# Altium integrated library Atmel Microcontroller 32-Bit AVR UC3.IntLib: 109 symbols (part 1 of 15)
Pins are listed as number, name and electrical type; pins without a type are passive.

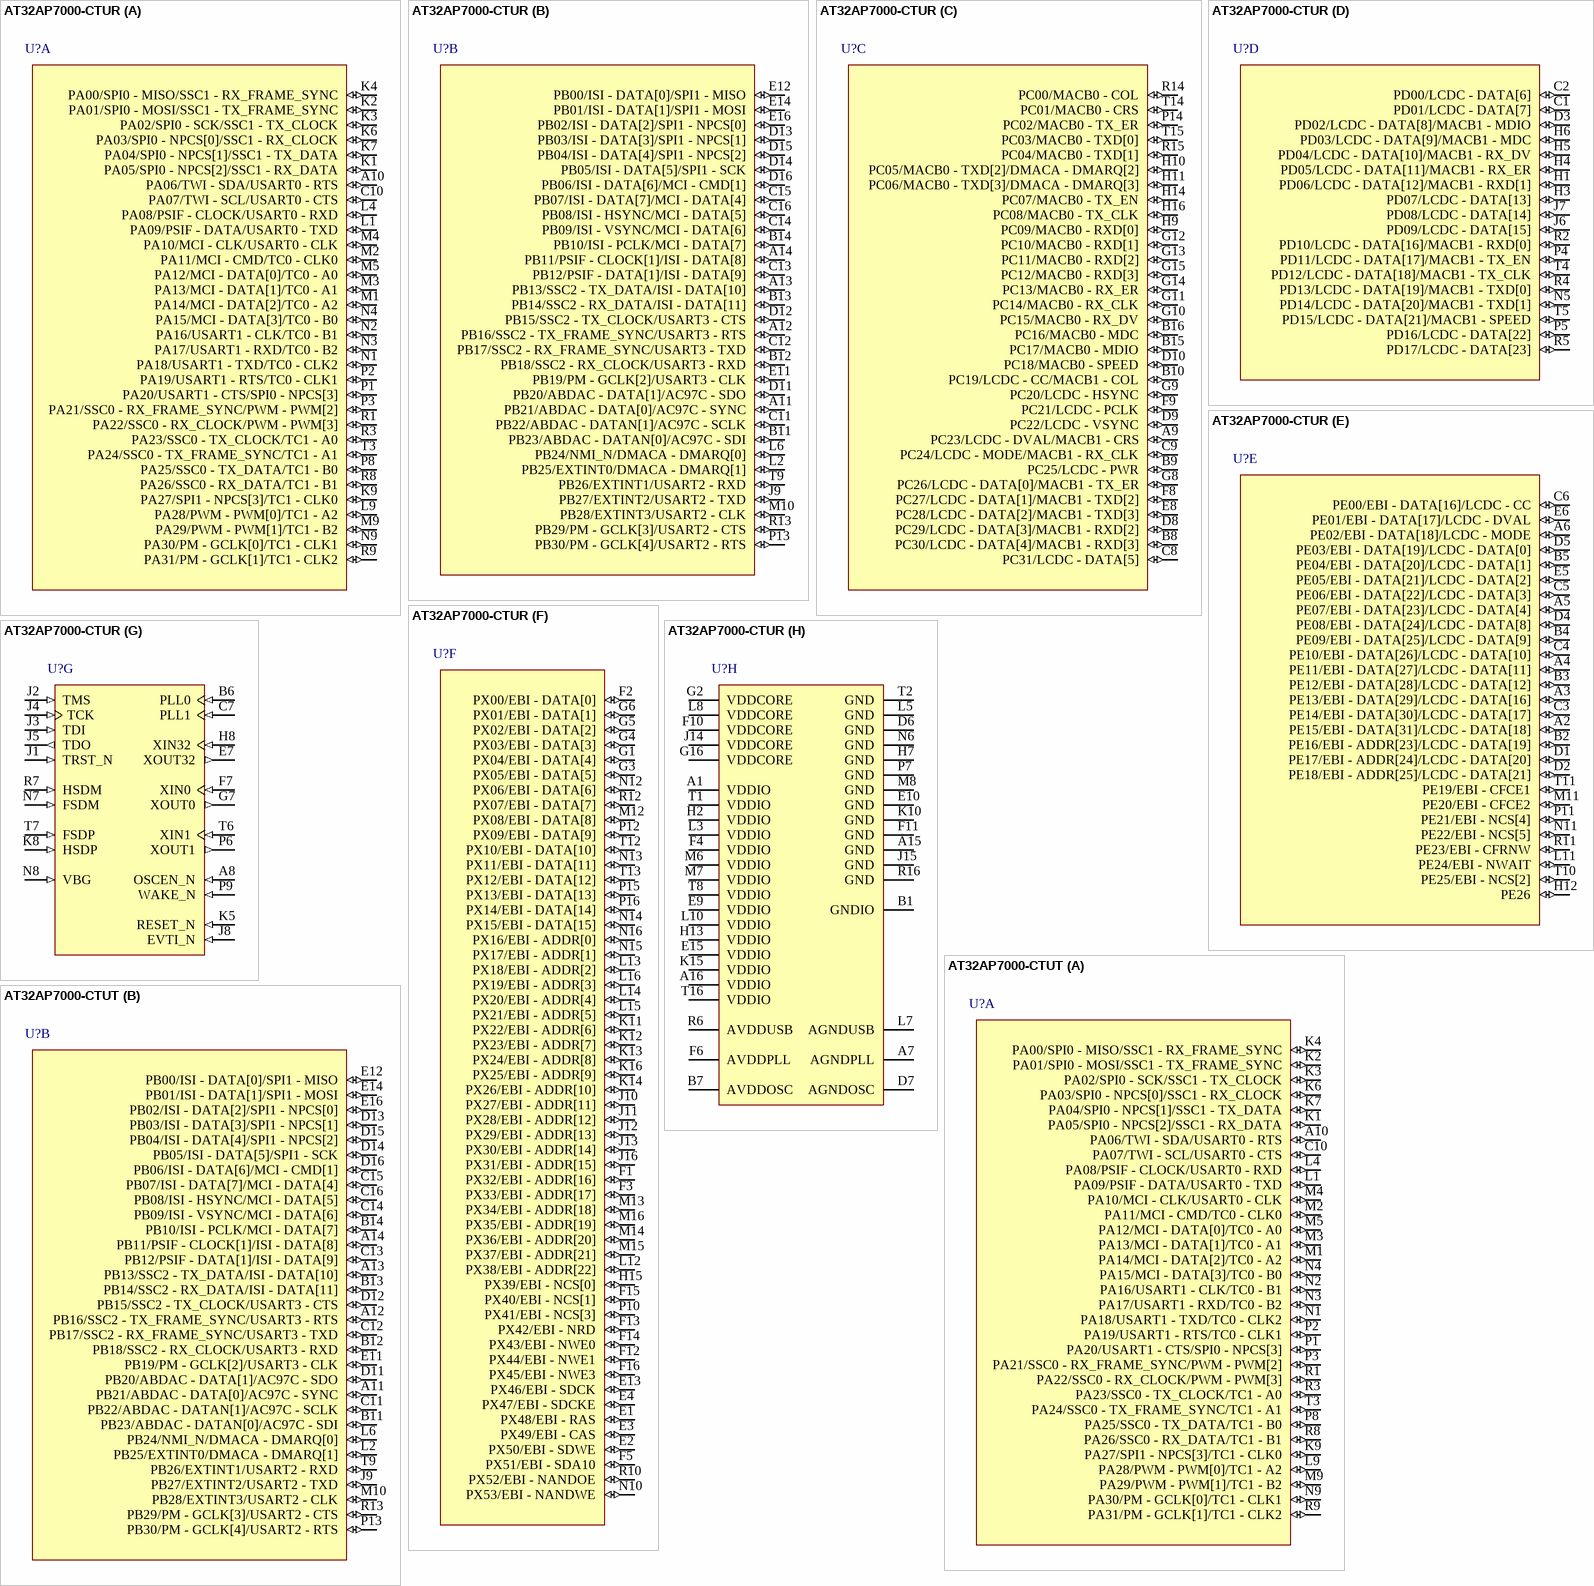
[diagram p0: symbols AT32AP7000-CTUR to AT32AP7000-CTUT]

## AT32AP7000-CTUR
designator U?
32-bit AVR UC3 Microcontroller, 32KB SRAM, 160 GPIO pins, 256-Pin CTBGA, Industrial Grade, Reel; Published: 1-Apr-2010; DatasheetVersion: revM, Sep-2009; PackageVersion: 2009; PackageReference: CTBGA256; Publisher: Altium Limited; PackageDescription: 256-Ball Thin Ball Grid Array, 17 x 17 mm Body, 1 mm Pitch; Supplier 1: Digi-Key; Supplier Part Number 1: AT32AP7000-CTUR-ND; Supplier 2: Mouser; Supplier Part Number 2: 556-A32AP7000-CTUR; Code_JEDEC: MO-216; ComponentLink1Description: Manufacturer Link; ComponentLink1URL: http://www.atmel.com/products/avr/default.asp?; ComponentLink2Description: AT32AP7000 Datasheet; ComponentLink2URL: http://www.atmel.com/dyn/resources/prod_documents/doc32003.pdf; ComponentLink3Description: AT32AP7000 Summary; ComponentLink3URL: http://www.atmel.com/dyn/resources/prod_documents/32003S.pdf; ComponentLink4Description: Atmel.com Home; ComponentLink4URL: http://www.atmel.com
footprint CTBGA256 (BGA, 256-Leads, Body 17x17mm, Pitch 1mm)
part A pins: A10 PA06/TWI - SDA/USART0 - RTS (io), C10 PA07/TWI - SCL/USART0 - CTS (io), K1 PA05/SPI0 - NPCS[2]/SSC1 - RX_DATA (io), K2 PA01/SPI0 - MOSI/SSC1 - TX_FRAME_SYNC (io), K3 PA02/SPI0 - SCK/SSC1 - TX_CLOCK (io), K4 PA00/SPI0 - MISO/SSC1 - RX_FRAME_SYNC (io), K6 PA03/SPI0 - NPCS[0]/SSC1 - RX_CLOCK (io), K7 PA04/SPI0 - NPCS[1]/SSC1 - TX_DATA (io), K9 PA27/SPI1 - NPCS[3]/TC1 - CLK0 (io), L1 PA09/PSIF - DATA/USART0 - TXD (io), L4 PA08/PSIF - CLOCK/USART0 - RXD (io), L9 PA28/PWM - PWM[0]/TC1 - A2 (io), M1 PA14/MCI - DATA[2]/TC0 - A2 (io), M2 PA11/MCI - CMD/TC0 - CLK0 (io), M3 PA13/MCI - DATA[1]/TC0 - A1 (io), M4 PA10/MCI - CLK/USART0 - CLK (io), M5 PA12/MCI - DATA[0]/TC0 - A0 (io), M9 PA29/PWM - PWM[1]/TC1 - B2 (io), N1 PA18/USART1 - TXD/TC0 - CLK2 (io), N2 PA16/USART1 - CLK/TC0 - B1 (io), N3 PA17/USART1 - RXD/TC0 - B2 (io), N4 PA15/MCI - DATA[3]/TC0 - B0 (io), N9 PA30/PM - GCLK[0]/TC1 - CLK1 (io), P1 PA20/USART1 - CTS/SPI0 - NPCS[3] (io), P2 PA19/USART1 - RTS/TC0 - CLK1 (io), P3 PA21/SSC0 - RX_FRAME_SYNC/PWM - PWM[2] (io), P8 PA25/SSC0 - TX_DATA/TC1 - B0 (io), R1 PA22/SSC0 - RX_CLOCK/PWM - PWM[3] (io), R3 PA23/SSC0 - TX_CLOCK/TC1 - A0 (io), R8 PA26/SSC0 - RX_DATA/TC1 - B1 (io), R9 PA31/PM - GCLK[1]/TC1 - CLK2 (io), T3 PA24/SSC0 - TX_FRAME_SYNC/TC1 - A1 (io)
part B pins: A11 PB21/ABDAC - DATA[0]/AC97C - SYNC (io), A12 PB16/SSC2 - TX_FRAME_SYNC/USART3 - RTS (io), A13 PB13/SSC2 - TX_DATA/ISI - DATA[10] (io), A14 PB11/PSIF - CLOCK[1]/ISI - DATA[8] (io), B11 PB23/ABDAC - DATAN[0]/AC97C - SDI (io), B12 PB18/SSC2 - RX_CLOCK/USART3 - RXD (io), B13 PB14/SSC2 - RX_DATA/ISI - DATA[11] (io), B14 PB10/ISI - PCLK/MCI - DATA[7] (io), C11 PB22/ABDAC - DATAN[1]/AC97C - SCLK (io), C12 PB17/SSC2 - RX_FRAME_SYNC/USART3 - TXD (io), C13 PB12/PSIF - DATA[1]/ISI - DATA[9] (io), C14 PB09/ISI - VSYNC/MCI - DATA[6] (io), C15 PB07/ISI - DATA[7]/MCI - DATA[4] (io), C16 PB08/ISI - HSYNC/MCI - DATA[5] (io), D11 PB20/ABDAC - DATA[1]/AC97C - SDO (io), D12 PB15/SSC2 - TX_CLOCK/USART3 - CTS (io), D13 PB03/ISI - DATA[3]/SPI1 - NPCS[1] (io), D14 PB05/ISI - DATA[5]/SPI1 - SCK (io), D15 PB04/ISI - DATA[4]/SPI1 - NPCS[2] (io), D16 PB06/ISI - DATA[6]/MCI - CMD[1] (io), E11 PB19/PM - GCLK[2]/USART3 - CLK (io), E12 PB00/ISI - DATA[0]/SPI1 - MISO (io), E14 PB01/ISI - DATA[1]/SPI1 - MOSI (io), E16 PB02/ISI - DATA[2]/SPI1 - NPCS[0] (io), J9 PB27/EXTINT2/USART2 - TXD (io), L2 PB25/EXTINT0/DMACA - DMARQ[1] (io), L6 PB24/NMI_N/DMACA - DMARQ[0] (io), M10 PB28/EXTINT3/USART2 - CLK (io), P13 PB30/PM - GCLK[4]/USART2 - RTS (io), R13 PB29/PM - GCLK[3]/USART2 - CTS (io), T9 PB26/EXTINT1/USART2 - RXD (io)
part C pins: A9 PC23/LCDC - DVAL/MACB1 - CRS (io), B8 PC30/LCDC - DATA[4]/MACB1 - RXD[3] (io), B9 PC25/LCDC - PWR (io), B10 PC19/LCDC - CC/MACB1 - COL (io), B15 PC17/MACB0 - MDIO (io), B16 PC16/MACB0 - MDC (io), C8 PC31/LCDC - DATA[5] (io), C9 PC24/LCDC - MODE/MACB1 - RX_CLK (io), D8 PC29/LCDC - DATA[3]/MACB1 - RXD[2] (io), D9 PC22/LCDC - VSYNC (io), D10 PC18/MACB0 - SPEED (io), E8 PC28/LCDC - DATA[2]/MACB1 - TXD[3] (io), F8 PC27/LCDC - DATA[1]/MACB1 - TXD[2] (io), F9 PC21/LCDC - PCLK (io), G8 PC26/LCDC - DATA[0]/MACB1 - TX_ER (io), G9 PC20/LCDC - HSYNC (io), G10 PC15/MACB0 - RX_DV (io), G11 PC14/MACB0 - RX_CLK (io), G12 PC10/MACB0 - RXD[1] (io), G13 PC11/MACB0 - RXD[2] (io), G14 PC13/MACB0 - RX_ER (io), G15 PC12/MACB0 - RXD[3] (io), H9 PC09/MACB0 - RXD[0] (io), H10 PC05/MACB0 - TXD[2]/DMACA - DMARQ[2] (io), H11 PC06/MACB0 - TXD[3]/DMACA - DMARQ[3] (io), H14 PC07/MACB0 - TX_EN (io), H16 PC08/MACB0 - TX_CLK (io), P14 PC02/MACB0 - TX_ER (io), R14 PC00/MACB0 - COL (io), R15 PC04/MACB0 - TXD[1] (io), T14 PC01/MACB0 - CRS (io), T15 PC03/MACB0 - TXD[0] (io)
part D pins: C1 PD01/LCDC - DATA[7] (io), C2 PD00/LCDC - DATA[6] (io), D3 PD02/LCDC - DATA[8]/MACB1 - MDIO (io), H1 PD06/LCDC - DATA[12]/MACB1 - RXD[1] (io), H3 PD07/LCDC - DATA[13] (io), H4 PD05/LCDC - DATA[11]/MACB1 - RX_ER (io), H5 PD04/LCDC - DATA[10]/MACB1 - RX_DV (io), H6 PD03/LCDC - DATA[9]/MACB1 - MDC (io), J6 PD09/LCDC - DATA[15] (io), J7 PD08/LCDC - DATA[14] (io), N5 PD14/LCDC - DATA[20]/MACB1 - TXD[1] (io), P4 PD11/LCDC - DATA[17]/MACB1 - TX_EN (io), P5 PD16/LCDC - DATA[22] (io), R2 PD10/LCDC - DATA[16]/MACB1 - RXD[0] (io), R4 PD13/LCDC - DATA[19]/MACB1 - TXD[0] (io), R5 PD17/LCDC - DATA[23] (io), T4 PD12/LCDC - DATA[18]/MACB1 - TX_CLK (io), T5 PD15/LCDC - DATA[21]/MACB1 - SPEED (io)
part E pins: A2 PE15/EBI - DATA[31]/LCDC - DATA[18] (io), A3 PE13/EBI - DATA[29]/LCDC - DATA[16] (io), A4 PE11/EBI - DATA[27]/LCDC - DATA[11] (io), A5 PE07/EBI - DATA[23]/LCDC - DATA[4] (io), A6 PE02/EBI - DATA[18]/LCDC - MODE (io), B2 PE16/EBI - ADDR[23]/LCDC - DATA[19] (io), B3 PE12/EBI - DATA[28]/LCDC - DATA[12] (io), B4 PE09/EBI - DATA[25]/LCDC - DATA[9] (io), B5 PE04/EBI - DATA[20]/LCDC - DATA[1] (io), C3 PE14/EBI - DATA[30]/LCDC - DATA[17] (io), C4 PE10/EBI - DATA[26]/LCDC - DATA[10] (io), C5 PE06/EBI - DATA[22]/LCDC - DATA[3] (io), C6 PE00/EBI - DATA[16]/LCDC - CC (io), D1 PE17/EBI - ADDR[24]/LCDC - DATA[20] (io), D2 PE18/EBI - ADDR[25]/LCDC - DATA[21] (io), D4 PE08/EBI - DATA[24]/LCDC - DATA[8] (io), D5 PE03/EBI - DATA[19]/LCDC - DATA[0] (io), E5 PE05/EBI - DATA[21]/LCDC - DATA[2] (io), E6 PE01/EBI - DATA[17]/LCDC - DVAL (io), H12 PE26 (io), L11 PE24/EBI - NWAIT (io), M11 PE20/EBI - CFCE2 (io), N11 PE22/EBI - NCS[5] (io), P11 PE21/EBI - NCS[4] (io), R11 PE23/EBI - CFRNW (io), T10 PE25/EBI - NCS[2] (io), T11 PE19/EBI - CFCE1 (io)
part F pins: E1 PX48/EBI - RAS (io), E2 PX50/EBI - SDWE (io), E3 PX49/EBI - CAS (io), E4 PX47/EBI - SDCKE (io), E13 PX46/EBI - SDCK (io), F1 PX32/EBI - ADDR[16] (io), F2 PX00/EBI - DATA[0] (io), F3 PX33/EBI - ADDR[17] (io), F5 PX51/EBI - SDA10 (io), F12 PX44/EBI - NWE1 (io), F13 PX42/EBI - NRD (io), F14 PX43/EBI - NWE0 (io), F15 PX40/EBI - NCS[1] (io), F16 PX45/EBI - NWE3 (io), G1 PX04/EBI - DATA[4] (io), G3 PX05/EBI - DATA[5] (io), G4 PX03/EBI - DATA[3] (io), G5 PX02/EBI - DATA[2] (io), G6 PX01/EBI - DATA[1] (io), H15 PX39/EBI - NCS[0] (io), J10 PX27/EBI - ADDR[11] (io), J11 PX28/EBI - ADDR[12] (io), J12 PX29/EBI - ADDR[13] (io), J13 PX30/EBI - ADDR[14] (io), J16 PX31/EBI - ADDR[15] (io), K11 PX22/EBI - ADDR[6] (io), K12 PX23/EBI - ADDR[7] (io), K13 PX24/EBI - ADDR[8] (io), K14 PX26/EBI - ADDR[10] (io), K16 PX25/EBI - ADDR[9] (io), L12 PX38/EBI - ADDR[22] (io), L13 PX18/EBI - ADDR[2] (io), L14 PX20/EBI - ADDR[4] (io), L15 PX21/EBI - ADDR[5] (io), L16 PX19/EBI - ADDR[3] (io), M12 PX08/EBI - DATA[8] (io), M13 PX34/EBI - ADDR[18] (io), M14 PX36/EBI - ADDR[20] (io), M15 PX37/EBI - ADDR[21] (io), M16 PX35/EBI - ADDR[19] (io), N10 PX53/EBI - NANDWE (io), N12 PX06/EBI - DATA[6] (io), N13 PX11/EBI - DATA[11] (io), N14 PX15/EBI - DATA[15] (io), N15 PX17/EBI - ADDR[1] (io), N16 PX16/EBI - ADDR[0] (io), P10 PX41/EBI - NCS[3] (io), P12 PX09/EBI - DATA[9] (io), P15 PX13/EBI - DATA[13] (io), P16 PX14/EBI - DATA[14] (io), R10 PX52/EBI - NANDOE (io), R12 PX07/EBI - DATA[7] (io), T12 PX10/EBI - DATA[10] (io), T13 PX12/EBI - DATA[12] (io)
part G pins: A8 OSCEN_N (in), B6 PLL0 (in), C7 PLL1 (in), E7 XOUT32 (out), F7 XIN0 (in), G7 XOUT0 (out), H8 XIN32 (in), J1 TRST_N (in), J2 TMS (in), J3 TDI (in), J4 TCK (in), J5 TDO (out), J8 EVTI_N (in), K5 RESET_N (in), K8 HSDP (in), N7 FSDM (in), N8 VBG (in), P6 XOUT1 (out), P9 WAKE_N (in), R7 HSDM (in), T6 XIN1 (in), T7 FSDP (in)
part H pins: A1 VDDIO (power), A7 AGNDPLL (power), A15 GND (power), A16 VDDIO (power), B1 GNDIO (power), B7 AVDDOSC (power), D6 GND (power), D7 AGNDOSC (power), E9 VDDIO (power), E10 GND (power), E15 VDDIO (power), F4 VDDIO (power), F6 AVDDPLL (power), F10 VDDCORE (power), F11 GND (power), G2 VDDCORE (power), G16 VDDCORE (power), H2 VDDIO (power), H7 GND (power), H13 VDDIO (power), J14 VDDCORE (power), J15 GND (power), K10 GND (power), K15 VDDIO (power), L3 VDDIO (power), L5 GND (power), L7 AGNDUSB (power), L8 VDDCORE (power), L10 VDDIO (power), M6 VDDIO (power), M7 VDDIO (power), M8 GND (power), N6 GND (power), P7 GND (power), R6 AVDDUSB (power), R16 GND (power), T1 VDDIO (power), T2 GND (power), T8 VDDIO (power), T16 VDDIO (power)

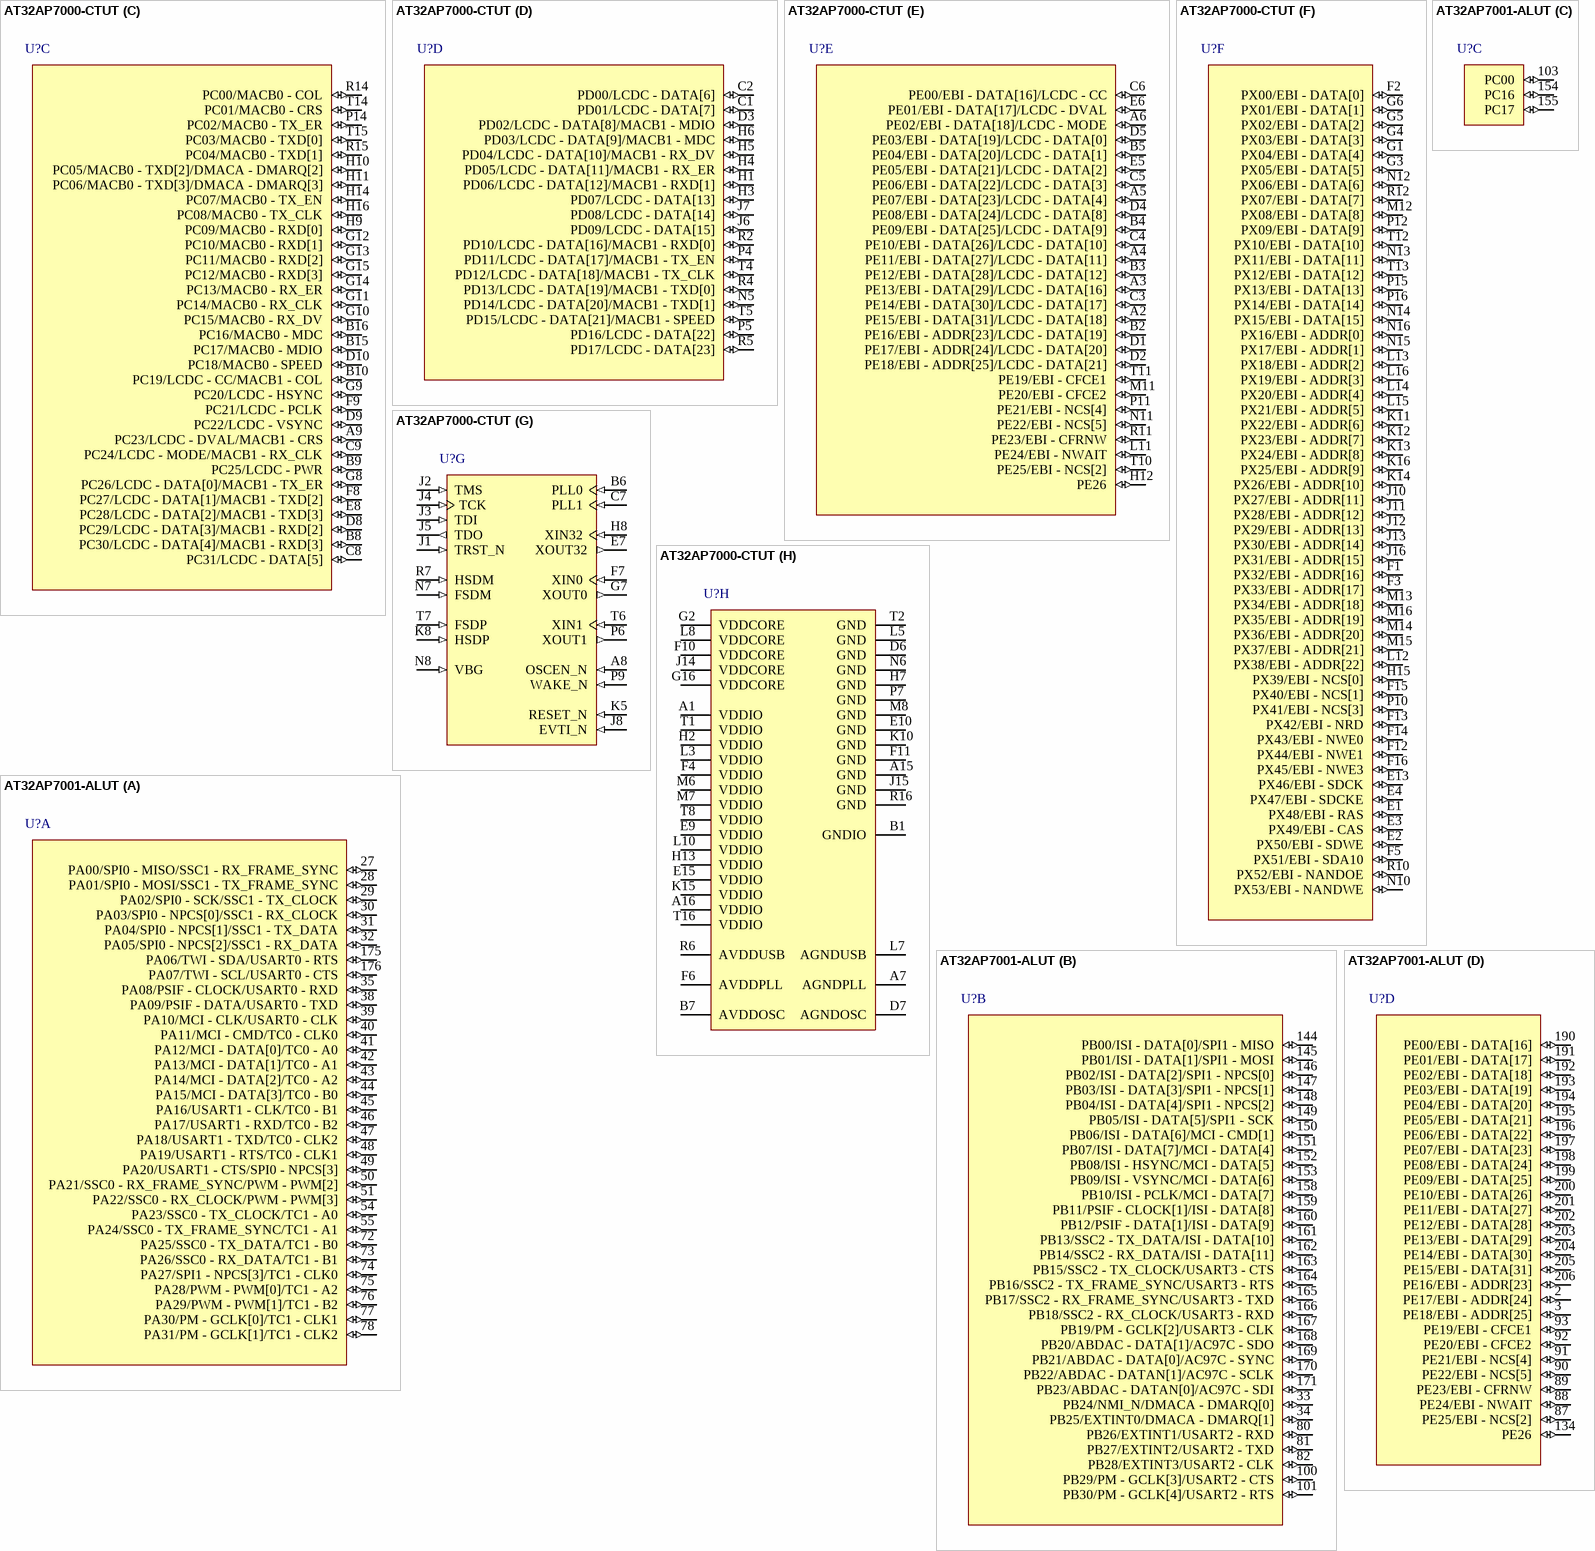
[diagram p1: symbols AT32AP7000-CTUT to AT32AP7001-ALUT]

## AT32AP7000-CTUT
designator U?
32-bit AVR UC3 Microcontroller, 32KB SRAM, 160 GPIO pins, 256-Pin CTBGA, Industrial Grade, Tray; Published: 1-Apr-2010; DatasheetVersion: revM, Sep-2009; PackageVersion: 2009; PackageReference: CTBGA256; Publisher: Altium Limited; PackageDescription: 256-Ball Thin Ball Grid Array, 17 x 17 mm Body, 1 mm Pitch; Supplier 1: Digi-Key; Supplier Part Number 1: AT32AP7000-CTUT-ND; Supplier 2: Farnell; Supplier Part Number 2: 1715451; Supplier 3: Mouser; Supplier Part Number 3: 556-A32AP7000-CTUT; Code_JEDEC: MO-216; ComponentLink1Description: Manufacturer Link; ComponentLink1URL: http://www.atmel.com/products/avr/default.asp?; ComponentLink2Description: AT32AP7000 Datasheet; ComponentLink2URL: http://www.atmel.com/dyn/resources/prod_documents/doc32003.pdf; ComponentLink3Description: AT32AP7000 Summary; ComponentLink3URL: http://www.atmel.com/dyn/resources/prod_documents/32003S.pdf; ComponentLink4Description: Atmel.com Home; ComponentLink4URL: http://www.atmel.com
footprint CTBGA256 (BGA, 256-Leads, Body 17x17mm, Pitch 1mm)
part A pins: A10 PA06/TWI - SDA/USART0 - RTS (io), C10 PA07/TWI - SCL/USART0 - CTS (io), K1 PA05/SPI0 - NPCS[2]/SSC1 - RX_DATA (io), K2 PA01/SPI0 - MOSI/SSC1 - TX_FRAME_SYNC (io), K3 PA02/SPI0 - SCK/SSC1 - TX_CLOCK (io), K4 PA00/SPI0 - MISO/SSC1 - RX_FRAME_SYNC (io), K6 PA03/SPI0 - NPCS[0]/SSC1 - RX_CLOCK (io), K7 PA04/SPI0 - NPCS[1]/SSC1 - TX_DATA (io), K9 PA27/SPI1 - NPCS[3]/TC1 - CLK0 (io), L1 PA09/PSIF - DATA/USART0 - TXD (io), L4 PA08/PSIF - CLOCK/USART0 - RXD (io), L9 PA28/PWM - PWM[0]/TC1 - A2 (io), M1 PA14/MCI - DATA[2]/TC0 - A2 (io), M2 PA11/MCI - CMD/TC0 - CLK0 (io), M3 PA13/MCI - DATA[1]/TC0 - A1 (io), M4 PA10/MCI - CLK/USART0 - CLK (io), M5 PA12/MCI - DATA[0]/TC0 - A0 (io), M9 PA29/PWM - PWM[1]/TC1 - B2 (io), N1 PA18/USART1 - TXD/TC0 - CLK2 (io), N2 PA16/USART1 - CLK/TC0 - B1 (io), N3 PA17/USART1 - RXD/TC0 - B2 (io), N4 PA15/MCI - DATA[3]/TC0 - B0 (io), N9 PA30/PM - GCLK[0]/TC1 - CLK1 (io), P1 PA20/USART1 - CTS/SPI0 - NPCS[3] (io), P2 PA19/USART1 - RTS/TC0 - CLK1 (io), P3 PA21/SSC0 - RX_FRAME_SYNC/PWM - PWM[2] (io), P8 PA25/SSC0 - TX_DATA/TC1 - B0 (io), R1 PA22/SSC0 - RX_CLOCK/PWM - PWM[3] (io), R3 PA23/SSC0 - TX_CLOCK/TC1 - A0 (io), R8 PA26/SSC0 - RX_DATA/TC1 - B1 (io), R9 PA31/PM - GCLK[1]/TC1 - CLK2 (io), T3 PA24/SSC0 - TX_FRAME_SYNC/TC1 - A1 (io)
part B pins: A11 PB21/ABDAC - DATA[0]/AC97C - SYNC (io), A12 PB16/SSC2 - TX_FRAME_SYNC/USART3 - RTS (io), A13 PB13/SSC2 - TX_DATA/ISI - DATA[10] (io), A14 PB11/PSIF - CLOCK[1]/ISI - DATA[8] (io), B11 PB23/ABDAC - DATAN[0]/AC97C - SDI (io), B12 PB18/SSC2 - RX_CLOCK/USART3 - RXD (io), B13 PB14/SSC2 - RX_DATA/ISI - DATA[11] (io), B14 PB10/ISI - PCLK/MCI - DATA[7] (io), C11 PB22/ABDAC - DATAN[1]/AC97C - SCLK (io), C12 PB17/SSC2 - RX_FRAME_SYNC/USART3 - TXD (io), C13 PB12/PSIF - DATA[1]/ISI - DATA[9] (io), C14 PB09/ISI - VSYNC/MCI - DATA[6] (io), C15 PB07/ISI - DATA[7]/MCI - DATA[4] (io), C16 PB08/ISI - HSYNC/MCI - DATA[5] (io), D11 PB20/ABDAC - DATA[1]/AC97C - SDO (io), D12 PB15/SSC2 - TX_CLOCK/USART3 - CTS (io), D13 PB03/ISI - DATA[3]/SPI1 - NPCS[1] (io), D14 PB05/ISI - DATA[5]/SPI1 - SCK (io), D15 PB04/ISI - DATA[4]/SPI1 - NPCS[2] (io), D16 PB06/ISI - DATA[6]/MCI - CMD[1] (io), E11 PB19/PM - GCLK[2]/USART3 - CLK (io), E12 PB00/ISI - DATA[0]/SPI1 - MISO (io), E14 PB01/ISI - DATA[1]/SPI1 - MOSI (io), E16 PB02/ISI - DATA[2]/SPI1 - NPCS[0] (io), J9 PB27/EXTINT2/USART2 - TXD (io), L2 PB25/EXTINT0/DMACA - DMARQ[1] (io), L6 PB24/NMI_N/DMACA - DMARQ[0] (io), M10 PB28/EXTINT3/USART2 - CLK (io), P13 PB30/PM - GCLK[4]/USART2 - RTS (io), R13 PB29/PM - GCLK[3]/USART2 - CTS (io), T9 PB26/EXTINT1/USART2 - RXD (io)
part C pins: A9 PC23/LCDC - DVAL/MACB1 - CRS (io), B8 PC30/LCDC - DATA[4]/MACB1 - RXD[3] (io), B9 PC25/LCDC - PWR (io), B10 PC19/LCDC - CC/MACB1 - COL (io), B15 PC17/MACB0 - MDIO (io), B16 PC16/MACB0 - MDC (io), C8 PC31/LCDC - DATA[5] (io), C9 PC24/LCDC - MODE/MACB1 - RX_CLK (io), D8 PC29/LCDC - DATA[3]/MACB1 - RXD[2] (io), D9 PC22/LCDC - VSYNC (io), D10 PC18/MACB0 - SPEED (io), E8 PC28/LCDC - DATA[2]/MACB1 - TXD[3] (io), F8 PC27/LCDC - DATA[1]/MACB1 - TXD[2] (io), F9 PC21/LCDC - PCLK (io), G8 PC26/LCDC - DATA[0]/MACB1 - TX_ER (io), G9 PC20/LCDC - HSYNC (io), G10 PC15/MACB0 - RX_DV (io), G11 PC14/MACB0 - RX_CLK (io), G12 PC10/MACB0 - RXD[1] (io), G13 PC11/MACB0 - RXD[2] (io), G14 PC13/MACB0 - RX_ER (io), G15 PC12/MACB0 - RXD[3] (io), H9 PC09/MACB0 - RXD[0] (io), H10 PC05/MACB0 - TXD[2]/DMACA - DMARQ[2] (io), H11 PC06/MACB0 - TXD[3]/DMACA - DMARQ[3] (io), H14 PC07/MACB0 - TX_EN (io), H16 PC08/MACB0 - TX_CLK (io), P14 PC02/MACB0 - TX_ER (io), R14 PC00/MACB0 - COL (io), R15 PC04/MACB0 - TXD[1] (io), T14 PC01/MACB0 - CRS (io), T15 PC03/MACB0 - TXD[0] (io)
part D pins: C1 PD01/LCDC - DATA[7] (io), C2 PD00/LCDC - DATA[6] (io), D3 PD02/LCDC - DATA[8]/MACB1 - MDIO (io), H1 PD06/LCDC - DATA[12]/MACB1 - RXD[1] (io), H3 PD07/LCDC - DATA[13] (io), H4 PD05/LCDC - DATA[11]/MACB1 - RX_ER (io), H5 PD04/LCDC - DATA[10]/MACB1 - RX_DV (io), H6 PD03/LCDC - DATA[9]/MACB1 - MDC (io), J6 PD09/LCDC - DATA[15] (io), J7 PD08/LCDC - DATA[14] (io), N5 PD14/LCDC - DATA[20]/MACB1 - TXD[1] (io), P4 PD11/LCDC - DATA[17]/MACB1 - TX_EN (io), P5 PD16/LCDC - DATA[22] (io), R2 PD10/LCDC - DATA[16]/MACB1 - RXD[0] (io), R4 PD13/LCDC - DATA[19]/MACB1 - TXD[0] (io), R5 PD17/LCDC - DATA[23] (io), T4 PD12/LCDC - DATA[18]/MACB1 - TX_CLK (io), T5 PD15/LCDC - DATA[21]/MACB1 - SPEED (io)
part E pins: A2 PE15/EBI - DATA[31]/LCDC - DATA[18] (io), A3 PE13/EBI - DATA[29]/LCDC - DATA[16] (io), A4 PE11/EBI - DATA[27]/LCDC - DATA[11] (io), A5 PE07/EBI - DATA[23]/LCDC - DATA[4] (io), A6 PE02/EBI - DATA[18]/LCDC - MODE (io), B2 PE16/EBI - ADDR[23]/LCDC - DATA[19] (io), B3 PE12/EBI - DATA[28]/LCDC - DATA[12] (io), B4 PE09/EBI - DATA[25]/LCDC - DATA[9] (io), B5 PE04/EBI - DATA[20]/LCDC - DATA[1] (io), C3 PE14/EBI - DATA[30]/LCDC - DATA[17] (io), C4 PE10/EBI - DATA[26]/LCDC - DATA[10] (io), C5 PE06/EBI - DATA[22]/LCDC - DATA[3] (io), C6 PE00/EBI - DATA[16]/LCDC - CC (io), D1 PE17/EBI - ADDR[24]/LCDC - DATA[20] (io), D2 PE18/EBI - ADDR[25]/LCDC - DATA[21] (io), D4 PE08/EBI - DATA[24]/LCDC - DATA[8] (io), D5 PE03/EBI - DATA[19]/LCDC - DATA[0] (io), E5 PE05/EBI - DATA[21]/LCDC - DATA[2] (io), E6 PE01/EBI - DATA[17]/LCDC - DVAL (io), H12 PE26 (io), L11 PE24/EBI - NWAIT (io), M11 PE20/EBI - CFCE2 (io), N11 PE22/EBI - NCS[5] (io), P11 PE21/EBI - NCS[4] (io), R11 PE23/EBI - CFRNW (io), T10 PE25/EBI - NCS[2] (io), T11 PE19/EBI - CFCE1 (io)
part F pins: E1 PX48/EBI - RAS (io), E2 PX50/EBI - SDWE (io), E3 PX49/EBI - CAS (io), E4 PX47/EBI - SDCKE (io), E13 PX46/EBI - SDCK (io), F1 PX32/EBI - ADDR[16] (io), F2 PX00/EBI - DATA[0] (io), F3 PX33/EBI - ADDR[17] (io), F5 PX51/EBI - SDA10 (io), F12 PX44/EBI - NWE1 (io), F13 PX42/EBI - NRD (io), F14 PX43/EBI - NWE0 (io), F15 PX40/EBI - NCS[1] (io), F16 PX45/EBI - NWE3 (io), G1 PX04/EBI - DATA[4] (io), G3 PX05/EBI - DATA[5] (io), G4 PX03/EBI - DATA[3] (io), G5 PX02/EBI - DATA[2] (io), G6 PX01/EBI - DATA[1] (io), H15 PX39/EBI - NCS[0] (io), J10 PX27/EBI - ADDR[11] (io), J11 PX28/EBI - ADDR[12] (io), J12 PX29/EBI - ADDR[13] (io), J13 PX30/EBI - ADDR[14] (io), J16 PX31/EBI - ADDR[15] (io), K11 PX22/EBI - ADDR[6] (io), K12 PX23/EBI - ADDR[7] (io), K13 PX24/EBI - ADDR[8] (io), K14 PX26/EBI - ADDR[10] (io), K16 PX25/EBI - ADDR[9] (io), L12 PX38/EBI - ADDR[22] (io), L13 PX18/EBI - ADDR[2] (io), L14 PX20/EBI - ADDR[4] (io), L15 PX21/EBI - ADDR[5] (io), L16 PX19/EBI - ADDR[3] (io), M12 PX08/EBI - DATA[8] (io), M13 PX34/EBI - ADDR[18] (io), M14 PX36/EBI - ADDR[20] (io), M15 PX37/EBI - ADDR[21] (io), M16 PX35/EBI - ADDR[19] (io), N10 PX53/EBI - NANDWE (io), N12 PX06/EBI - DATA[6] (io), N13 PX11/EBI - DATA[11] (io), N14 PX15/EBI - DATA[15] (io), N15 PX17/EBI - ADDR[1] (io), N16 PX16/EBI - ADDR[0] (io), P10 PX41/EBI - NCS[3] (io), P12 PX09/EBI - DATA[9] (io), P15 PX13/EBI - DATA[13] (io), P16 PX14/EBI - DATA[14] (io), R10 PX52/EBI - NANDOE (io), R12 PX07/EBI - DATA[7] (io), T12 PX10/EBI - DATA[10] (io), T13 PX12/EBI - DATA[12] (io)
part G pins: A8 OSCEN_N (in), B6 PLL0 (in), C7 PLL1 (in), E7 XOUT32 (out), F7 XIN0 (in), G7 XOUT0 (out), H8 XIN32 (in), J1 TRST_N (in), J2 TMS (in), J3 TDI (in), J4 TCK (in), J5 TDO (out), J8 EVTI_N (in), K5 RESET_N (in), K8 HSDP (in), N7 FSDM (in), N8 VBG (in), P6 XOUT1 (out), P9 WAKE_N (in), R7 HSDM (in), T6 XIN1 (in), T7 FSDP (in)
part H pins: A1 VDDIO (power), A7 AGNDPLL (power), A15 GND (power), A16 VDDIO (power), B1 GNDIO (power), B7 AVDDOSC (power), D6 GND (power), D7 AGNDOSC (power), E9 VDDIO (power), E10 GND (power), E15 VDDIO (power), F4 VDDIO (power), F6 AVDDPLL (power), F10 VDDCORE (power), F11 GND (power), G2 VDDCORE (power), G16 VDDCORE (power), H2 VDDIO (power), H7 GND (power), H13 VDDIO (power), J14 VDDCORE (power), J15 GND (power), K10 GND (power), K15 VDDIO (power), L3 VDDIO (power), L5 GND (power), L7 AGNDUSB (power), L8 VDDCORE (power), L10 VDDIO (power), M6 VDDIO (power), M7 VDDIO (power), M8 GND (power), N6 GND (power), P7 GND (power), R6 AVDDUSB (power), R16 GND (power), T1 VDDIO (power), T2 GND (power), T8 VDDIO (power), T16 VDDIO (power)

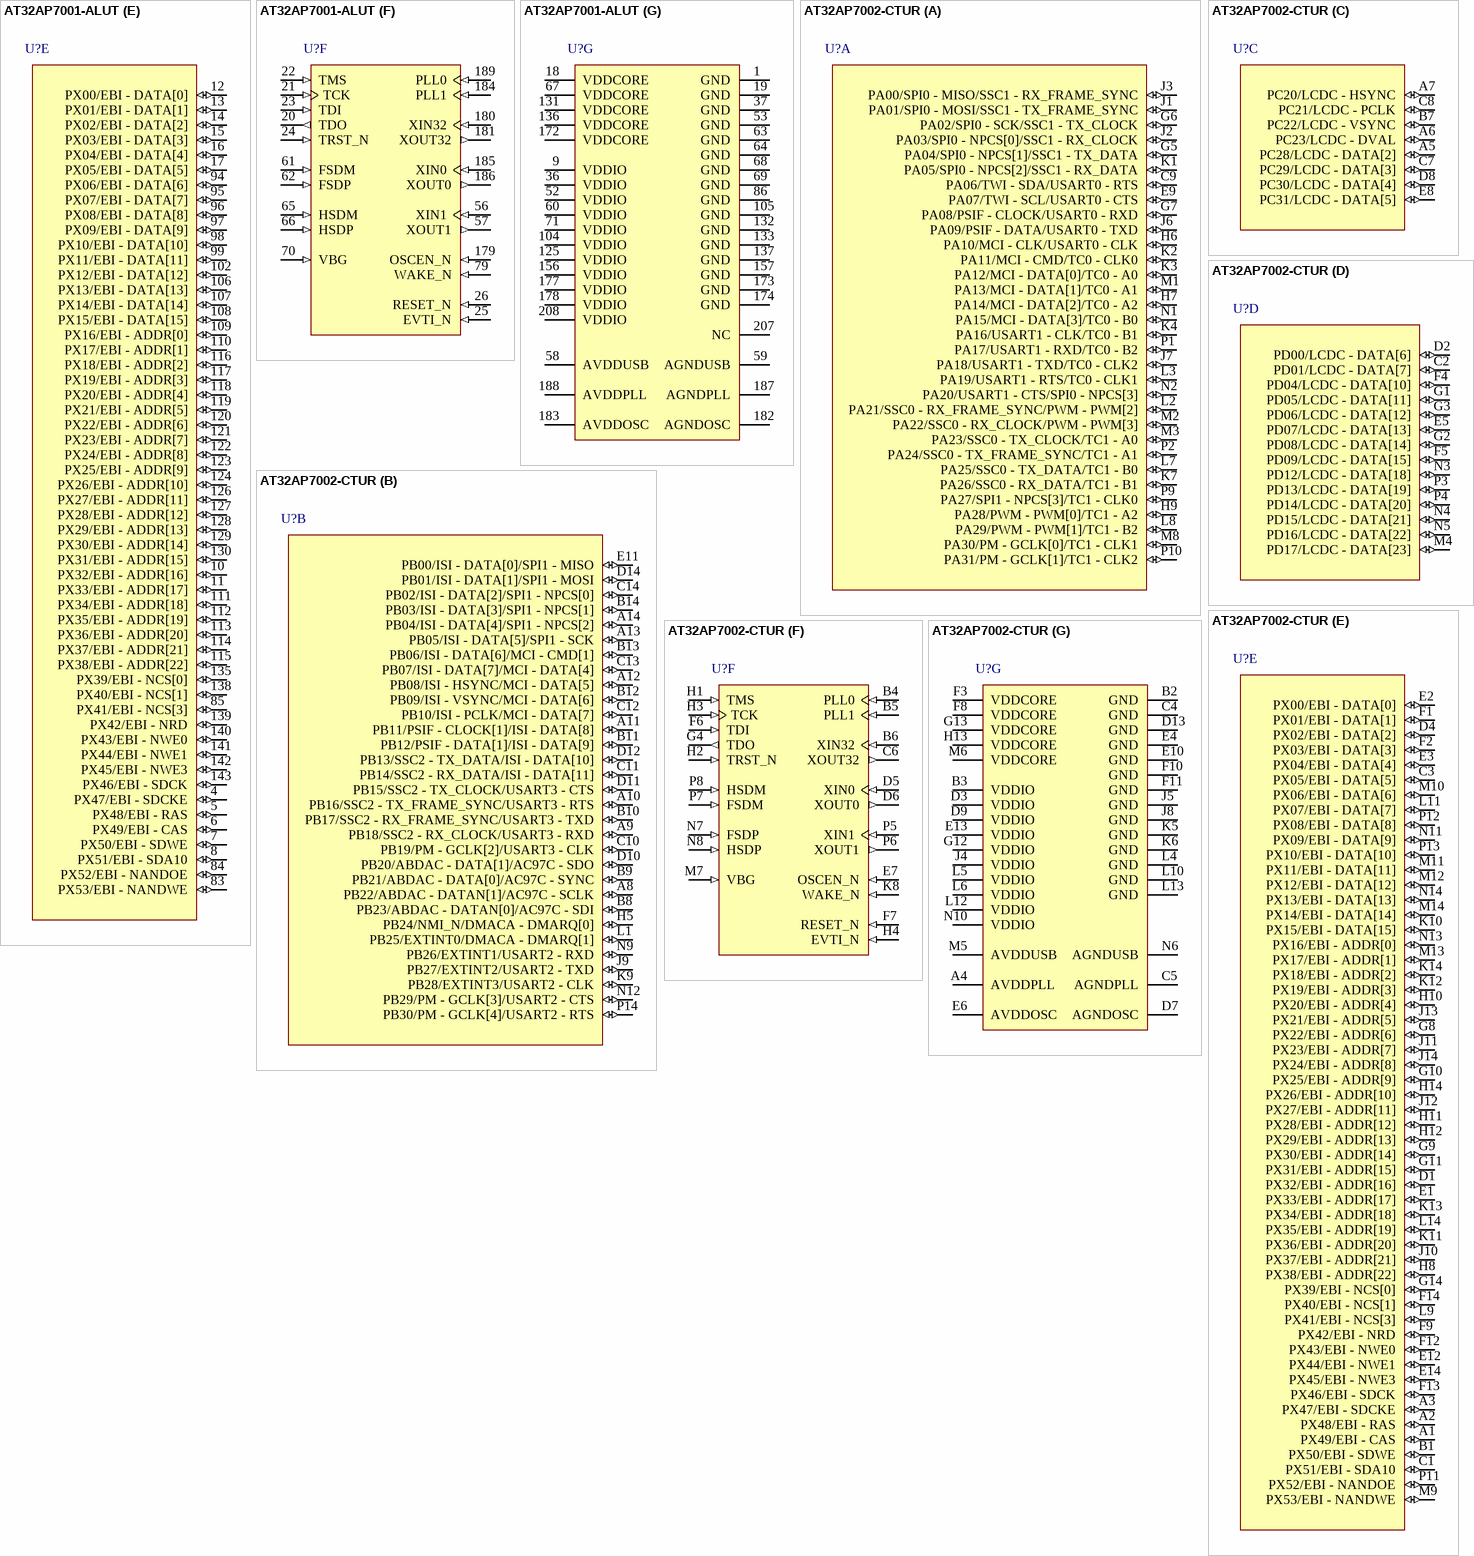
[diagram p2: symbols AT32AP7001-ALUT to AT32AP7002-CTUR]

## AT32AP7001-ALUT
designator U?
32-bit AVR UC3 Microcontroller, 32KB SRAM, 90 GPIO pins, 208-Pin QFP, Industrial Grade, Tray; Published: 1-Apr-2010; DatasheetVersion: revG, Sep-2009; PackageVersion: 2009; PackageReference: LQFP208; Publisher: Altium Limited; PackageDescription: 208-Pin Thin Quad Flat Pack, 28 x 28 x 1.4 mm Body, 0.5 mm Pitch; Supplier 1: Digi-Key; Supplier Part Number 1: AT32AP7001-ALUT-ND; Supplier 2: Mouser; Supplier Part Number 2: 556-A32AP7001-ALUT; Code_JEDEC: MS-029; ComponentLink1Description: Manufacturer Link; ComponentLink1URL: http://www.atmel.com/products/avr/default.asp?; ComponentLink2Description: AT32AP7001 Datasheet; ComponentLink2URL: http://www.atmel.com/dyn/resources/prod_documents/doc32015.pdf; ComponentLink3Description: AT32AP7001 Summary; ComponentLink3URL: http://www.atmel.com/dyn/resources/prod_documents/32015S.pdf; ComponentLink4Description: Atmel.com Home; ComponentLink4URL: http://www.atmel.com
footprint LQFP208_N (Thin QFP, 208-Leads, Body 28x28mm, Pitch 0.5mm, IPC Medium Density)
footprint LQFP208_L (Thin QFP, 208-Leads, Body 28x28mm, Pitch 0.5mm, IPC High Density)
footprint LQFP208_M (Thin QFP, 208-Leads, Body 28x28mm, Pitch 0.5mm, IPC Low Density)
part A pins: 27 PA00/SPI0 - MISO/SSC1 - RX_FRAME_SYNC (io), 28 PA01/SPI0 - MOSI/SSC1 - TX_FRAME_SYNC (io), 29 PA02/SPI0 - SCK/SSC1 - TX_CLOCK (io), 30 PA03/SPI0 - NPCS[0]/SSC1 - RX_CLOCK (io), 31 PA04/SPI0 - NPCS[1]/SSC1 - TX_DATA (io), 32 PA05/SPI0 - NPCS[2]/SSC1 - RX_DATA (io), 35 PA08/PSIF - CLOCK/USART0 - RXD (io), 38 PA09/PSIF - DATA/USART0 - TXD (io), 39 PA10/MCI - CLK/USART0 - CLK (io), 40 PA11/MCI - CMD/TC0 - CLK0 (io), 41 PA12/MCI - DATA[0]/TC0 - A0 (io), 42 PA13/MCI - DATA[1]/TC0 - A1 (io), 43 PA14/MCI - DATA[2]/TC0 - A2 (io), 44 PA15/MCI - DATA[3]/TC0 - B0 (io), 45 PA16/USART1 - CLK/TC0 - B1 (io), 46 PA17/USART1 - RXD/TC0 - B2 (io), 47 PA18/USART1 - TXD/TC0 - CLK2 (io), 48 PA19/USART1 - RTS/TC0 - CLK1 (io), 49 PA20/USART1 - CTS/SPI0 - NPCS[3] (io), 50 PA21/SSC0 - RX_FRAME_SYNC/PWM - PWM[2] (io), 51 PA22/SSC0 - RX_CLOCK/PWM - PWM[3] (io), 54 PA23/SSC0 - TX_CLOCK/TC1 - A0 (io), 55 PA24/SSC0 - TX_FRAME_SYNC/TC1 - A1 (io), 72 PA25/SSC0 - TX_DATA/TC1 - B0 (io), 73 PA26/SSC0 - RX_DATA/TC1 - B1 (io), 74 PA27/SPI1 - NPCS[3]/TC1 - CLK0 (io), 75 PA28/PWM - PWM[0]/TC1 - A2 (io), 76 PA29/PWM - PWM[1]/TC1 - B2 (io), 77 PA30/PM - GCLK[0]/TC1 - CLK1 (io), 78 PA31/PM - GCLK[1]/TC1 - CLK2 (io), 175 PA06/TWI - SDA/USART0 - RTS (io), 176 PA07/TWI - SCL/USART0 - CTS (io)
part B pins: 33 PB24/NMI_N/DMACA - DMARQ[0] (io), 34 PB25/EXTINT0/DMACA - DMARQ[1] (io), 80 PB26/EXTINT1/USART2 - RXD (io), 81 PB27/EXTINT2/USART2 - TXD (io), 82 PB28/EXTINT3/USART2 - CLK (io), 100 PB29/PM - GCLK[3]/USART2 - CTS (io), 101 PB30/PM - GCLK[4]/USART2 - RTS (io), 144 PB00/ISI - DATA[0]/SPI1 - MISO (io), 145 PB01/ISI - DATA[1]/SPI1 - MOSI (io), 146 PB02/ISI - DATA[2]/SPI1 - NPCS[0] (io), 147 PB03/ISI - DATA[3]/SPI1 - NPCS[1] (io), 148 PB04/ISI - DATA[4]/SPI1 - NPCS[2] (io), 149 PB05/ISI - DATA[5]/SPI1 - SCK (io), 150 PB06/ISI - DATA[6]/MCI - CMD[1] (io), 151 PB07/ISI - DATA[7]/MCI - DATA[4] (io), 152 PB08/ISI - HSYNC/MCI - DATA[5] (io), 153 PB09/ISI - VSYNC/MCI - DATA[6] (io), 158 PB10/ISI - PCLK/MCI - DATA[7] (io), 159 PB11/PSIF - CLOCK[1]/ISI - DATA[8] (io), 160 PB12/PSIF - DATA[1]/ISI - DATA[9] (io), 161 PB13/SSC2 - TX_DATA/ISI - DATA[10] (io), 162 PB14/SSC2 - RX_DATA/ISI - DATA[11] (io), 163 PB15/SSC2 - TX_CLOCK/USART3 - CTS (io), 164 PB16/SSC2 - TX_FRAME_SYNC/USART3 - RTS (io), 165 PB17/SSC2 - RX_FRAME_SYNC/USART3 - TXD (io), 166 PB18/SSC2 - RX_CLOCK/USART3 - RXD (io), 167 PB19/PM - GCLK[2]/USART3 - CLK (io), 168 PB20/ABDAC - DATA[1]/AC97C - SDO (io), 169 PB21/ABDAC - DATA[0]/AC97C - SYNC (io), 170 PB22/ABDAC - DATAN[1]/AC97C - SCLK (io), 171 PB23/ABDAC - DATAN[0]/AC97C - SDI (io)
part C pins: 103 PC00 (io), 154 PC16 (io), 155 PC17 (io)
part D pins: 2 PE17/EBI - ADDR[24] (io), 3 PE18/EBI - ADDR[25] (io), 87 PE25/EBI - NCS[2] (io), 88 PE24/EBI - NWAIT (io), 89 PE23/EBI - CFRNW (io), 90 PE22/EBI - NCS[5] (io), 91 PE21/EBI - NCS[4] (io), 92 PE20/EBI - CFCE2 (io), 93 PE19/EBI - CFCE1 (io), 134 PE26 (io), 190 PE00/EBI - DATA[16] (io), 191 PE01/EBI - DATA[17] (io), 192 PE02/EBI - DATA[18] (io), 193 PE03/EBI - DATA[19] (io), 194 PE04/EBI - DATA[20] (io), 195 PE05/EBI - DATA[21] (io), 196 PE06/EBI - DATA[22] (io), 197 PE07/EBI - DATA[23] (io), 198 PE08/EBI - DATA[24] (io), 199 PE09/EBI - DATA[25] (io), 200 PE10/EBI - DATA[26] (io), 201 PE11/EBI - DATA[27] (io), 202 PE12/EBI - DATA[28] (io), 203 PE13/EBI - DATA[29] (io), 204 PE14/EBI - DATA[30] (io), 205 PE15/EBI - DATA[31] (io), 206 PE16/EBI - ADDR[23] (io)
part E pins: 4 PX47/EBI - SDCKE (io), 5 PX48/EBI - RAS (io), 6 PX49/EBI - CAS (io), 7 PX50/EBI - SDWE (io), 8 PX51/EBI - SDA10 (io), 10 PX32/EBI - ADDR[16] (io), 11 PX33/EBI - ADDR[17] (io), 12 PX00/EBI - DATA[0] (io), 13 PX01/EBI - DATA[1] (io), 14 PX02/EBI - DATA[2] (io), 15 PX03/EBI - DATA[3] (io), 16 PX04/EBI - DATA[4] (io), 17 PX05/EBI - DATA[5] (io), 83 PX53/EBI - NANDWE (io), 84 PX52/EBI - NANDOE (io), 85 PX41/EBI - NCS[3] (io), 94 PX06/EBI - DATA[6] (io), 95 PX07/EBI - DATA[7] (io), 96 PX08/EBI - DATA[8] (io), 97 PX09/EBI - DATA[9] (io), 98 PX10/EBI - DATA[10] (io), 99 PX11/EBI - DATA[11] (io), 102 PX12/EBI - DATA[12] (io), 106 PX13/EBI - DATA[13] (io), 107 PX14/EBI - DATA[14] (io), 108 PX15/EBI - DATA[15] (io), 109 PX16/EBI - ADDR[0] (io), 110 PX17/EBI - ADDR[1] (io), 111 PX34/EBI - ADDR[18] (io), 112 PX35/EBI - ADDR[19] (io), 113 PX36/EBI - ADDR[20] (io), 114 PX37/EBI - ADDR[21] (io), 115 PX38/EBI - ADDR[22] (io), 116 PX18/EBI - ADDR[2] (io), 117 PX19/EBI - ADDR[3] (io), 118 PX20/EBI - ADDR[4] (io), 119 PX21/EBI - ADDR[5] (io), 120 PX22/EBI - ADDR[6] (io), 121 PX23/EBI - ADDR[7] (io), 122 PX24/EBI - ADDR[8] (io), 123 PX25/EBI - ADDR[9] (io), 124 PX26/EBI - ADDR[10] (io), 126 PX27/EBI - ADDR[11] (io), 127 PX28/EBI - ADDR[12] (io), 128 PX29/EBI - ADDR[13] (io), 129 PX30/EBI - ADDR[14] (io), 130 PX31/EBI - ADDR[15] (io), 135 PX39/EBI - NCS[0] (io), 138 PX40/EBI - NCS[1] (io), 139 PX42/EBI - NRD (io), 140 PX43/EBI - NWE0 (io), 141 PX44/EBI - NWE1 (io), 142 PX45/EBI - NWE3 (io), 143 PX46/EBI - SDCK (io)
part F pins: 20 TDO (out), 21 TCK (in), 22 TMS (in), 23 TDI (in), 24 TRST_N (in), 25 EVTI_N (in), 26 RESET_N (in), 56 XIN1 (in), 57 XOUT1 (out), 61 FSDM (in), 62 FSDP (in), 65 HSDM (in), 66 HSDP (in), 70 VBG (in), 79 WAKE_N (in), 179 OSCEN_N (in), 180 XIN32 (in), 181 XOUT32 (out), 184 PLL1 (in), 185 XIN0 (in), 186 XOUT0 (out), 189 PLL0 (in)
part G pins: 1 GND (power), 9 VDDIO (power), 18 VDDCORE (power), 19 GND (power), 36 VDDIO (power), 37 GND (power), 52 VDDIO (power), 53 GND (power), 58 AVDDUSB (power), 59 AGNDUSB (power), 60 VDDIO (power), 63 GND (power), 64 GND (power), 67 VDDCORE (power), 68 GND (power), 69 GND (power), 71 VDDIO (power), 86 GND (power), 104 VDDIO (power), 105 GND (power), 125 VDDIO (power), 131 VDDCORE (power), 132 GND (power), 133 GND (power), 136 VDDCORE (power), 137 GND (power), 156 VDDIO (power), 157 GND (power), 172 VDDCORE (power), 173 GND (power), 174 GND (power), 177 VDDIO (power), 178 VDDIO (power), 182 AGNDOSC (power), 183 AVDDOSC (power), 187 AGNDPLL (power), 188 AVDDPLL (power), 207 NC, 208 VDDIO (power)

## AT32AP7002-CTUR
designator U?
32-bit AVR UC3 Microcontroller, 32KB SRAM, 85 GPIO pins, 196-Pin CTBGA, Industrial Grade, Reel; Published: 1-Apr-2010; DatasheetVersion: revF, Sep-2009; PackageVersion: 2009; PackageReference: CTBGA196; Publisher: Altium Limited; PackageDescription: 196-Ball Thin Ball Grid Array, 12 x 12 mm Body, 0.8 mm Pitch; Supplier 1: Digi-Key; Supplier Part Number 1: AT32AP7002-CTUR-ND; Supplier 2: Mouser; Supplier Part Number 2: 556-A32AP7002-CTUR; Code_JEDEC: MO-216; ComponentLink1Description: Manufacturer Link; ComponentLink1URL: http://www.atmel.com/products/avr/default.asp?; ComponentLink2Description: AT32AP7002 Datasheet; ComponentLink2URL: http://www.atmel.com/dyn/resources/prod_documents/doc32054.pdf; ComponentLink3Description: AT32AP7002 Summary; ComponentLink3URL: http://www.atmel.com/dyn/resources/prod_documents/32054S.pdf; ComponentLink4Description: Atmel.com Home; ComponentLink4URL: http://www.atmel.com
footprint CTBGA196 (BGA, 196-Leads, Body 12x12mm, Pitch 0.8mm)
part A pins: C9 PA06/TWI - SDA/USART0 - RTS (io), E9 PA07/TWI - SCL/USART0 - CTS (io), G5 PA04/SPI0 - NPCS[1]/SSC1 - TX_DATA (io), G6 PA02/SPI0 - SCK/SSC1 - TX_CLOCK (io), G7 PA08/PSIF - CLOCK/USART0 - RXD (io), H6 PA10/MCI - CLK/USART0 - CLK (io), H7 PA14/MCI - DATA[2]/TC0 - A2 (io), H9 PA28/PWM - PWM[0]/TC1 - A2 (io), J1 PA01/SPI0 - MOSI/SSC1 - TX_FRAME_SYNC (io), J2 PA03/SPI0 - NPCS[0]/SSC1 - RX_CLOCK (io), J3 PA00/SPI0 - MISO/SSC1 - RX_FRAME_SYNC (io), J6 PA09/PSIF - DATA/USART0 - TXD (io), J7 PA18/USART1 - TXD/TC0 - CLK2 (io), K1 PA05/SPI0 - NPCS[2]/SSC1 - RX_DATA (io), K2 PA11/MCI - CMD/TC0 - CLK0 (io), K3 PA12/MCI - DATA[0]/TC0 - A0 (io), K4 PA16/USART1 - CLK/TC0 - B1 (io), K7 PA26/SSC0 - RX_DATA/TC1 - B1 (io), L2 PA21/SSC0 - RX_FRAME_SYNC/PWM - PWM[2] (io), L3 PA19/USART1 - RTS/TC0 - CLK1 (io), L7 PA25/SSC0 - TX_DATA/TC1 - B0 (io), L8 PA29/PWM - PWM[1]/TC1 - B2 (io), M1 PA13/MCI - DATA[1]/TC0 - A1 (io), M2 PA22/SSC0 - RX_CLOCK/PWM - PWM[3] (io), M3 PA23/SSC0 - TX_CLOCK/TC1 - A0 (io), M8 PA30/PM - GCLK[0]/TC1 - CLK1 (io), N1 PA15/MCI - DATA[3]/TC0 - B0 (io), N2 PA20/USART1 - CTS/SPI0 - NPCS[3] (io), P1 PA17/USART1 - RXD/TC0 - B2 (io), P2 PA24/SSC0 - TX_FRAME_SYNC/TC1 - A1 (io), P9 PA27/SPI1 - NPCS[3]/TC1 - CLK0 (io), P10 PA31/PM - GCLK[1]/TC1 - CLK2 (io)
part B pins: A8 PB22/ABDAC - DATAN[1]/AC97C - SCLK (io), A9 PB18/SSC2 - RX_CLOCK/USART3 - RXD (io), A10 PB16/SSC2 - TX_FRAME_SYNC/USART3 - RTS (io), A11 PB11/PSIF - CLOCK[1]/ISI - DATA[8] (io), A12 PB08/ISI - HSYNC/MCI - DATA[5] (io), A13 PB05/ISI - DATA[5]/SPI1 - SCK (io), A14 PB04/ISI - DATA[4]/SPI1 - NPCS[2] (io), B8 PB23/ABDAC - DATAN[0]/AC97C - SDI (io), B9 PB21/ABDAC - DATA[0]/AC97C - SYNC (io), B10 PB17/SSC2 - RX_FRAME_SYNC/USART3 - TXD (io), B11 PB12/PSIF - DATA[1]/ISI - DATA[9] (io), B12 PB09/ISI - VSYNC/MCI - DATA[6] (io), B13 PB06/ISI - DATA[6]/MCI - CMD[1] (io), B14 PB03/ISI - DATA[3]/SPI1 - NPCS[1] (io), C10 PB19/PM - GCLK[2]/USART3 - CLK (io), C11 PB14/SSC2 - RX_DATA/ISI - DATA[11] (io), C12 PB10/ISI - PCLK/MCI - DATA[7] (io), C13 PB07/ISI - DATA[7]/MCI - DATA[4] (io), C14 PB02/ISI - DATA[2]/SPI1 - NPCS[0] (io), D10 PB20/ABDAC - DATA[1]/AC97C - SDO (io), D11 PB15/SSC2 - TX_CLOCK/USART3 - CTS (io), D12 PB13/SSC2 - TX_DATA/ISI - DATA[10] (io), D14 PB01/ISI - DATA[1]/SPI1 - MOSI (io), E11 PB00/ISI - DATA[0]/SPI1 - MISO (io), H5 PB24/NMI_N/DMACA - DMARQ[0] (io), J9 PB27/EXTINT2/USART2 - TXD (io), K9 PB28/EXTINT3/USART2 - CLK (io), L1 PB25/EXTINT0/DMACA - DMARQ[1] (io), N9 PB26/EXTINT1/USART2 - RXD (io), N12 PB29/PM - GCLK[3]/USART2 - CTS (io), P14 PB30/PM - GCLK[4]/USART2 - RTS (io)
part C pins: A5 PC28/LCDC - DATA[2] (io), A6 PC23/LCDC - DVAL (io), A7 PC20/LCDC - HSYNC (io), B7 PC22/LCDC - VSYNC (io), C7 PC29/LCDC - DATA[3] (io), C8 PC21/LCDC - PCLK (io), D8 PC30/LCDC - DATA[4] (io), E8 PC31/LCDC - DATA[5] (io)
part D pins: C2 PD01/LCDC - DATA[7] (io), D2 PD00/LCDC - DATA[6] (io), E5 PD07/LCDC - DATA[13] (io), F4 PD04/LCDC - DATA[10] (io), F5 PD09/LCDC - DATA[15] (io), G1 PD05/LCDC - DATA[11] (io), G2 PD08/LCDC - DATA[14] (io), G3 PD06/LCDC - DATA[12] (io), M4 PD17/LCDC - DATA[23] (io), N3 PD12/LCDC - DATA[18] (io), N4 PD15/LCDC - DATA[21] (io), N5 PD16/LCDC - DATA[22] (io), P3 PD13/LCDC - DATA[19] (io), P4 PD14/LCDC - DATA[20] (io)
part E pins: A1 PX49/EBI - CAS (io), A2 PX48/EBI - RAS (io), A3 PX47/EBI - SDCKE (io), B1 PX50/EBI - SDWE (io), C1 PX51/EBI - SDA10 (io), C3 PX05/EBI - DATA[5] (io), D1 PX32/EBI - ADDR[16] (io), D4 PX02/EBI - DATA[2] (io), E1 PX33/EBI - ADDR[17] (io), E2 PX00/EBI - DATA[0] (io), E3 PX04/EBI - DATA[4] (io), E12 PX44/EBI - NWE1 (io), E14 PX45/EBI - NWE3 (io), F1 PX01/EBI - DATA[1] (io), F2 PX03/EBI - DATA[3] (io), F9 PX42/EBI - NRD (io), F12 PX43/EBI - NWE0 (io), F13 PX46/EBI - SDCK (io), F14 PX40/EBI - NCS[1] (io), G8 PX22/EBI - ADDR[6] (io), G9 PX30/EBI - ADDR[14] (io), G10 PX25/EBI - ADDR[9] (io), G11 PX31/EBI - ADDR[15] (io), G14 PX39/EBI - NCS[0] (io), H8 PX38/EBI - ADDR[22] (io), H10 PX20/EBI - ADDR[4] (io), H11 PX28/EBI - ADDR[12] (io), H12 PX29/EBI - ADDR[13] (io), H14 PX26/EBI - ADDR[10] (io), J10 PX37/EBI - ADDR[21] (io), J11 PX23/EBI - ADDR[7] (io), J12 PX27/EBI - ADDR[11] (io), J13 PX21/EBI - ADDR[5] (io), J14 PX24/EBI - ADDR[8] (io), K10 PX15/EBI - DATA[15] (io), K11 PX36/EBI - ADDR[20] (io), K12 PX19/EBI - ADDR[3] (io), K13 PX34/EBI - ADDR[18] (io), K14 PX18/EBI - ADDR[2] (io), L9 PX41/EBI - NCS[3] (io), L11 PX07/EBI - DATA[7] (io), L14 PX35/EBI - ADDR[19] (io), M9 PX53/EBI - NANDWE (io), M10 PX06/EBI - DATA[6] (io), M11 PX11/EBI - DATA[11] (io), M12 PX12/EBI - DATA[12] (io), M13 PX17/EBI - ADDR[1] (io), M14 PX14/EBI - DATA[14] (io), N11 PX09/EBI - DATA[9] (io), N13 PX16/EBI - ADDR[0] (io), N14 PX13/EBI - DATA[13] (io), P11 PX52/EBI - NANDOE (io), P12 PX08/EBI - DATA[8] (io), P13 PX10/EBI - DATA[10] (io)
part F pins: B4 PLL0 (in), B5 PLL1 (in), B6 XIN32 (in), C6 XOUT32 (out), D5 XIN0 (in), D6 XOUT0 (out), E7 OSCEN_N (in), F6 TDI (in), F7 RESET_N (in), G4 TDO (out), H1 TMS (in), H2 TRST_N (in), H3 TCK (in), H4 EVTI_N (in), K8 WAKE_N (in), M7 VBG (in), N7 FSDP (in), N8 HSDP (in), P5 XIN1 (in), P6 XOUT1 (out), P7 FSDM (in), P8 HSDM (in)
part G pins: A4 AVDDPLL (power), B2 GND (power), B3 VDDIO (power), C4 GND (power), C5 AGNDPLL (power), D3 VDDIO (power), D7 AGNDOSC (power), D9 VDDIO (power), D13 GND (power), E4 GND (power), E6 AVDDOSC (power), E10 GND (power), E13 VDDIO (power), F3 VDDCORE (power), F8 VDDCORE (power), F10 GND (power), F11 GND (power), G12 VDDIO (power), G13 VDDCORE (power), H13 VDDCORE (power), J4 VDDIO (power), J5 GND (power), J8 GND (power), K5 GND (power), K6 GND (power), L4 GND (power), L5 VDDIO (power), L6 VDDIO (power), L10 GND (power), L12 VDDIO (power), L13 GND (power), M5 AVDDUSB (power), M6 VDDCORE (power), N6 AGNDUSB (power), N10 VDDIO (power)

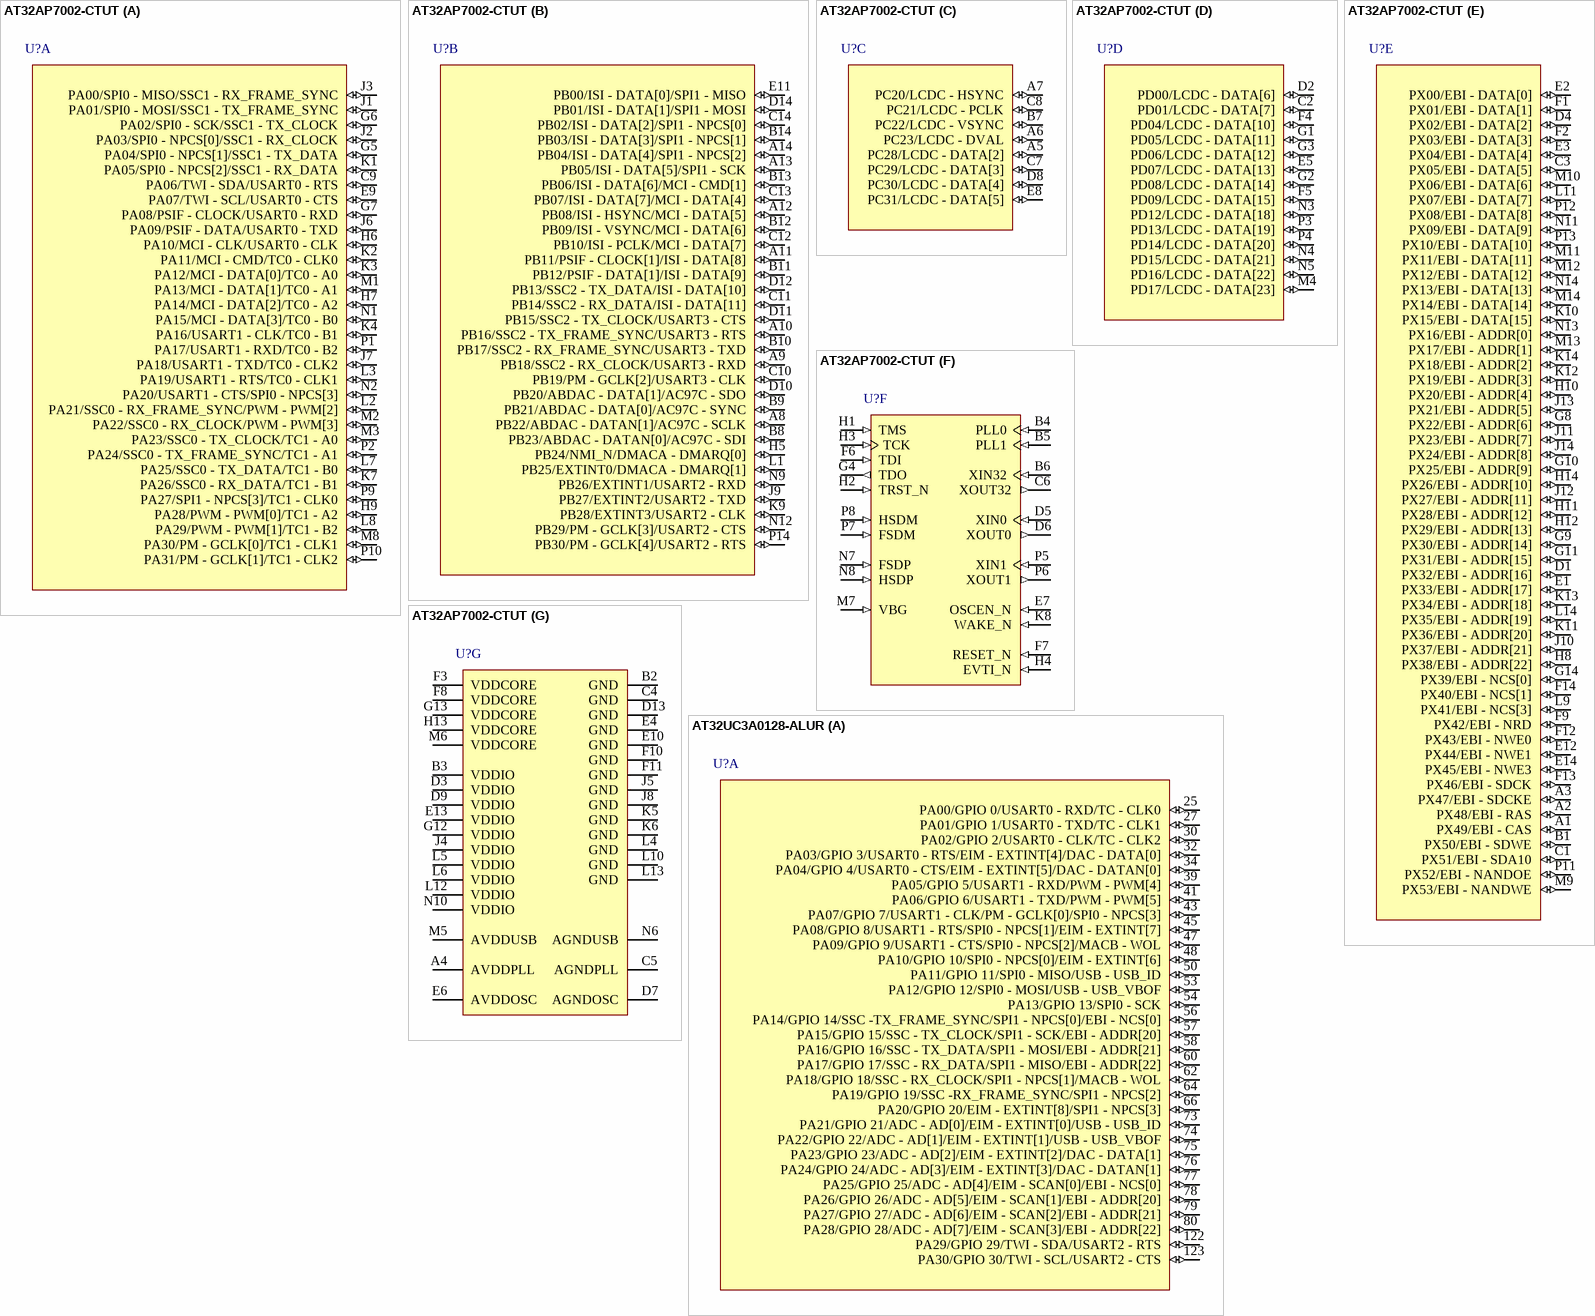
[diagram p3: symbols AT32AP7002-CTUT to AT32UC3A0128-ALUR]

## AT32AP7002-CTUT
designator U?
32-bit AVR UC3 Microcontroller, 32KB SRAM, 85 GPIO pins, 196-Pin CTBGA, Industrial Grade, Tray; Published: 1-Apr-2010; DatasheetVersion: revF, Sep-2009; PackageVersion: 2009; PackageReference: CTBGA196; Publisher: Altium Limited; PackageDescription: 196-Ball Thin Ball Grid Array, 12 x 12 mm Body, 0.8 mm Pitch; Supplier 1: Digi-Key; Supplier Part Number 1: AT32AP7002-CTUT-ND; Supplier 2: Mouser; Supplier Part Number 2: 556-A32AP7002-CTUT; Code_JEDEC: MO-216; ComponentLink1Description: Manufacturer Link; ComponentLink1URL: http://www.atmel.com/products/avr/default.asp?; ComponentLink2Description: AT32AP7002 Datasheet; ComponentLink2URL: http://www.atmel.com/dyn/resources/prod_documents/doc32054.pdf; ComponentLink3Description: AT32AP7002 Summary; ComponentLink3URL: http://www.atmel.com/dyn/resources/prod_documents/32054S.pdf; ComponentLink4Description: Atmel.com Home; ComponentLink4URL: http://www.atmel.com
footprint CTBGA196 (BGA, 196-Leads, Body 12x12mm, Pitch 0.8mm)
part A pins: C9 PA06/TWI - SDA/USART0 - RTS (io), E9 PA07/TWI - SCL/USART0 - CTS (io), G5 PA04/SPI0 - NPCS[1]/SSC1 - TX_DATA (io), G6 PA02/SPI0 - SCK/SSC1 - TX_CLOCK (io), G7 PA08/PSIF - CLOCK/USART0 - RXD (io), H6 PA10/MCI - CLK/USART0 - CLK (io), H7 PA14/MCI - DATA[2]/TC0 - A2 (io), H9 PA28/PWM - PWM[0]/TC1 - A2 (io), J1 PA01/SPI0 - MOSI/SSC1 - TX_FRAME_SYNC (io), J2 PA03/SPI0 - NPCS[0]/SSC1 - RX_CLOCK (io), J3 PA00/SPI0 - MISO/SSC1 - RX_FRAME_SYNC (io), J6 PA09/PSIF - DATA/USART0 - TXD (io), J7 PA18/USART1 - TXD/TC0 - CLK2 (io), K1 PA05/SPI0 - NPCS[2]/SSC1 - RX_DATA (io), K2 PA11/MCI - CMD/TC0 - CLK0 (io), K3 PA12/MCI - DATA[0]/TC0 - A0 (io), K4 PA16/USART1 - CLK/TC0 - B1 (io), K7 PA26/SSC0 - RX_DATA/TC1 - B1 (io), L2 PA21/SSC0 - RX_FRAME_SYNC/PWM - PWM[2] (io), L3 PA19/USART1 - RTS/TC0 - CLK1 (io), L7 PA25/SSC0 - TX_DATA/TC1 - B0 (io), L8 PA29/PWM - PWM[1]/TC1 - B2 (io), M1 PA13/MCI - DATA[1]/TC0 - A1 (io), M2 PA22/SSC0 - RX_CLOCK/PWM - PWM[3] (io), M3 PA23/SSC0 - TX_CLOCK/TC1 - A0 (io), M8 PA30/PM - GCLK[0]/TC1 - CLK1 (io), N1 PA15/MCI - DATA[3]/TC0 - B0 (io), N2 PA20/USART1 - CTS/SPI0 - NPCS[3] (io), P1 PA17/USART1 - RXD/TC0 - B2 (io), P2 PA24/SSC0 - TX_FRAME_SYNC/TC1 - A1 (io), P9 PA27/SPI1 - NPCS[3]/TC1 - CLK0 (io), P10 PA31/PM - GCLK[1]/TC1 - CLK2 (io)
part B pins: A8 PB22/ABDAC - DATAN[1]/AC97C - SCLK (io), A9 PB18/SSC2 - RX_CLOCK/USART3 - RXD (io), A10 PB16/SSC2 - TX_FRAME_SYNC/USART3 - RTS (io), A11 PB11/PSIF - CLOCK[1]/ISI - DATA[8] (io), A12 PB08/ISI - HSYNC/MCI - DATA[5] (io), A13 PB05/ISI - DATA[5]/SPI1 - SCK (io), A14 PB04/ISI - DATA[4]/SPI1 - NPCS[2] (io), B8 PB23/ABDAC - DATAN[0]/AC97C - SDI (io), B9 PB21/ABDAC - DATA[0]/AC97C - SYNC (io), B10 PB17/SSC2 - RX_FRAME_SYNC/USART3 - TXD (io), B11 PB12/PSIF - DATA[1]/ISI - DATA[9] (io), B12 PB09/ISI - VSYNC/MCI - DATA[6] (io), B13 PB06/ISI - DATA[6]/MCI - CMD[1] (io), B14 PB03/ISI - DATA[3]/SPI1 - NPCS[1] (io), C10 PB19/PM - GCLK[2]/USART3 - CLK (io), C11 PB14/SSC2 - RX_DATA/ISI - DATA[11] (io), C12 PB10/ISI - PCLK/MCI - DATA[7] (io), C13 PB07/ISI - DATA[7]/MCI - DATA[4] (io), C14 PB02/ISI - DATA[2]/SPI1 - NPCS[0] (io), D10 PB20/ABDAC - DATA[1]/AC97C - SDO (io), D11 PB15/SSC2 - TX_CLOCK/USART3 - CTS (io), D12 PB13/SSC2 - TX_DATA/ISI - DATA[10] (io), D14 PB01/ISI - DATA[1]/SPI1 - MOSI (io), E11 PB00/ISI - DATA[0]/SPI1 - MISO (io), H5 PB24/NMI_N/DMACA - DMARQ[0] (io), J9 PB27/EXTINT2/USART2 - TXD (io), K9 PB28/EXTINT3/USART2 - CLK (io), L1 PB25/EXTINT0/DMACA - DMARQ[1] (io), N9 PB26/EXTINT1/USART2 - RXD (io), N12 PB29/PM - GCLK[3]/USART2 - CTS (io), P14 PB30/PM - GCLK[4]/USART2 - RTS (io)
part C pins: A5 PC28/LCDC - DATA[2] (io), A6 PC23/LCDC - DVAL (io), A7 PC20/LCDC - HSYNC (io), B7 PC22/LCDC - VSYNC (io), C7 PC29/LCDC - DATA[3] (io), C8 PC21/LCDC - PCLK (io), D8 PC30/LCDC - DATA[4] (io), E8 PC31/LCDC - DATA[5] (io)
part D pins: C2 PD01/LCDC - DATA[7] (io), D2 PD00/LCDC - DATA[6] (io), E5 PD07/LCDC - DATA[13] (io), F4 PD04/LCDC - DATA[10] (io), F5 PD09/LCDC - DATA[15] (io), G1 PD05/LCDC - DATA[11] (io), G2 PD08/LCDC - DATA[14] (io), G3 PD06/LCDC - DATA[12] (io), M4 PD17/LCDC - DATA[23] (io), N3 PD12/LCDC - DATA[18] (io), N4 PD15/LCDC - DATA[21] (io), N5 PD16/LCDC - DATA[22] (io), P3 PD13/LCDC - DATA[19] (io), P4 PD14/LCDC - DATA[20] (io)
part E pins: A1 PX49/EBI - CAS (io), A2 PX48/EBI - RAS (io), A3 PX47/EBI - SDCKE (io), B1 PX50/EBI - SDWE (io), C1 PX51/EBI - SDA10 (io), C3 PX05/EBI - DATA[5] (io), D1 PX32/EBI - ADDR[16] (io), D4 PX02/EBI - DATA[2] (io), E1 PX33/EBI - ADDR[17] (io), E2 PX00/EBI - DATA[0] (io), E3 PX04/EBI - DATA[4] (io), E12 PX44/EBI - NWE1 (io), E14 PX45/EBI - NWE3 (io), F1 PX01/EBI - DATA[1] (io), F2 PX03/EBI - DATA[3] (io), F9 PX42/EBI - NRD (io), F12 PX43/EBI - NWE0 (io), F13 PX46/EBI - SDCK (io), F14 PX40/EBI - NCS[1] (io), G8 PX22/EBI - ADDR[6] (io), G9 PX30/EBI - ADDR[14] (io), G10 PX25/EBI - ADDR[9] (io), G11 PX31/EBI - ADDR[15] (io), G14 PX39/EBI - NCS[0] (io), H8 PX38/EBI - ADDR[22] (io), H10 PX20/EBI - ADDR[4] (io), H11 PX28/EBI - ADDR[12] (io), H12 PX29/EBI - ADDR[13] (io), H14 PX26/EBI - ADDR[10] (io), J10 PX37/EBI - ADDR[21] (io), J11 PX23/EBI - ADDR[7] (io), J12 PX27/EBI - ADDR[11] (io), J13 PX21/EBI - ADDR[5] (io), J14 PX24/EBI - ADDR[8] (io), K10 PX15/EBI - DATA[15] (io), K11 PX36/EBI - ADDR[20] (io), K12 PX19/EBI - ADDR[3] (io), K13 PX34/EBI - ADDR[18] (io), K14 PX18/EBI - ADDR[2] (io), L9 PX41/EBI - NCS[3] (io), L11 PX07/EBI - DATA[7] (io), L14 PX35/EBI - ADDR[19] (io), M9 PX53/EBI - NANDWE (io), M10 PX06/EBI - DATA[6] (io), M11 PX11/EBI - DATA[11] (io), M12 PX12/EBI - DATA[12] (io), M13 PX17/EBI - ADDR[1] (io), M14 PX14/EBI - DATA[14] (io), N11 PX09/EBI - DATA[9] (io), N13 PX16/EBI - ADDR[0] (io), N14 PX13/EBI - DATA[13] (io), P11 PX52/EBI - NANDOE (io), P12 PX08/EBI - DATA[8] (io), P13 PX10/EBI - DATA[10] (io)
part F pins: B4 PLL0 (in), B5 PLL1 (in), B6 XIN32 (in), C6 XOUT32 (out), D5 XIN0 (in), D6 XOUT0 (out), E7 OSCEN_N (in), F6 TDI (in), F7 RESET_N (in), G4 TDO (out), H1 TMS (in), H2 TRST_N (in), H3 TCK (in), H4 EVTI_N (in), K8 WAKE_N (in), M7 VBG (in), N7 FSDP (in), N8 HSDP (in), P5 XIN1 (in), P6 XOUT1 (out), P7 FSDM (in), P8 HSDM (in)
part G pins: A4 AVDDPLL (power), B2 GND (power), B3 VDDIO (power), C4 GND (power), C5 AGNDPLL (power), D3 VDDIO (power), D7 AGNDOSC (power), D9 VDDIO (power), D13 GND (power), E4 GND (power), E6 AVDDOSC (power), E10 GND (power), E13 VDDIO (power), F3 VDDCORE (power), F8 VDDCORE (power), F10 GND (power), F11 GND (power), G12 VDDIO (power), G13 VDDCORE (power), H13 VDDCORE (power), J4 VDDIO (power), J5 GND (power), J8 GND (power), K5 GND (power), K6 GND (power), L4 GND (power), L5 VDDIO (power), L6 VDDIO (power), L10 GND (power), L12 VDDIO (power), L13 GND (power), M5 AVDDUSB (power), M6 VDDCORE (power), N6 AGNDUSB (power), N10 VDDIO (power)

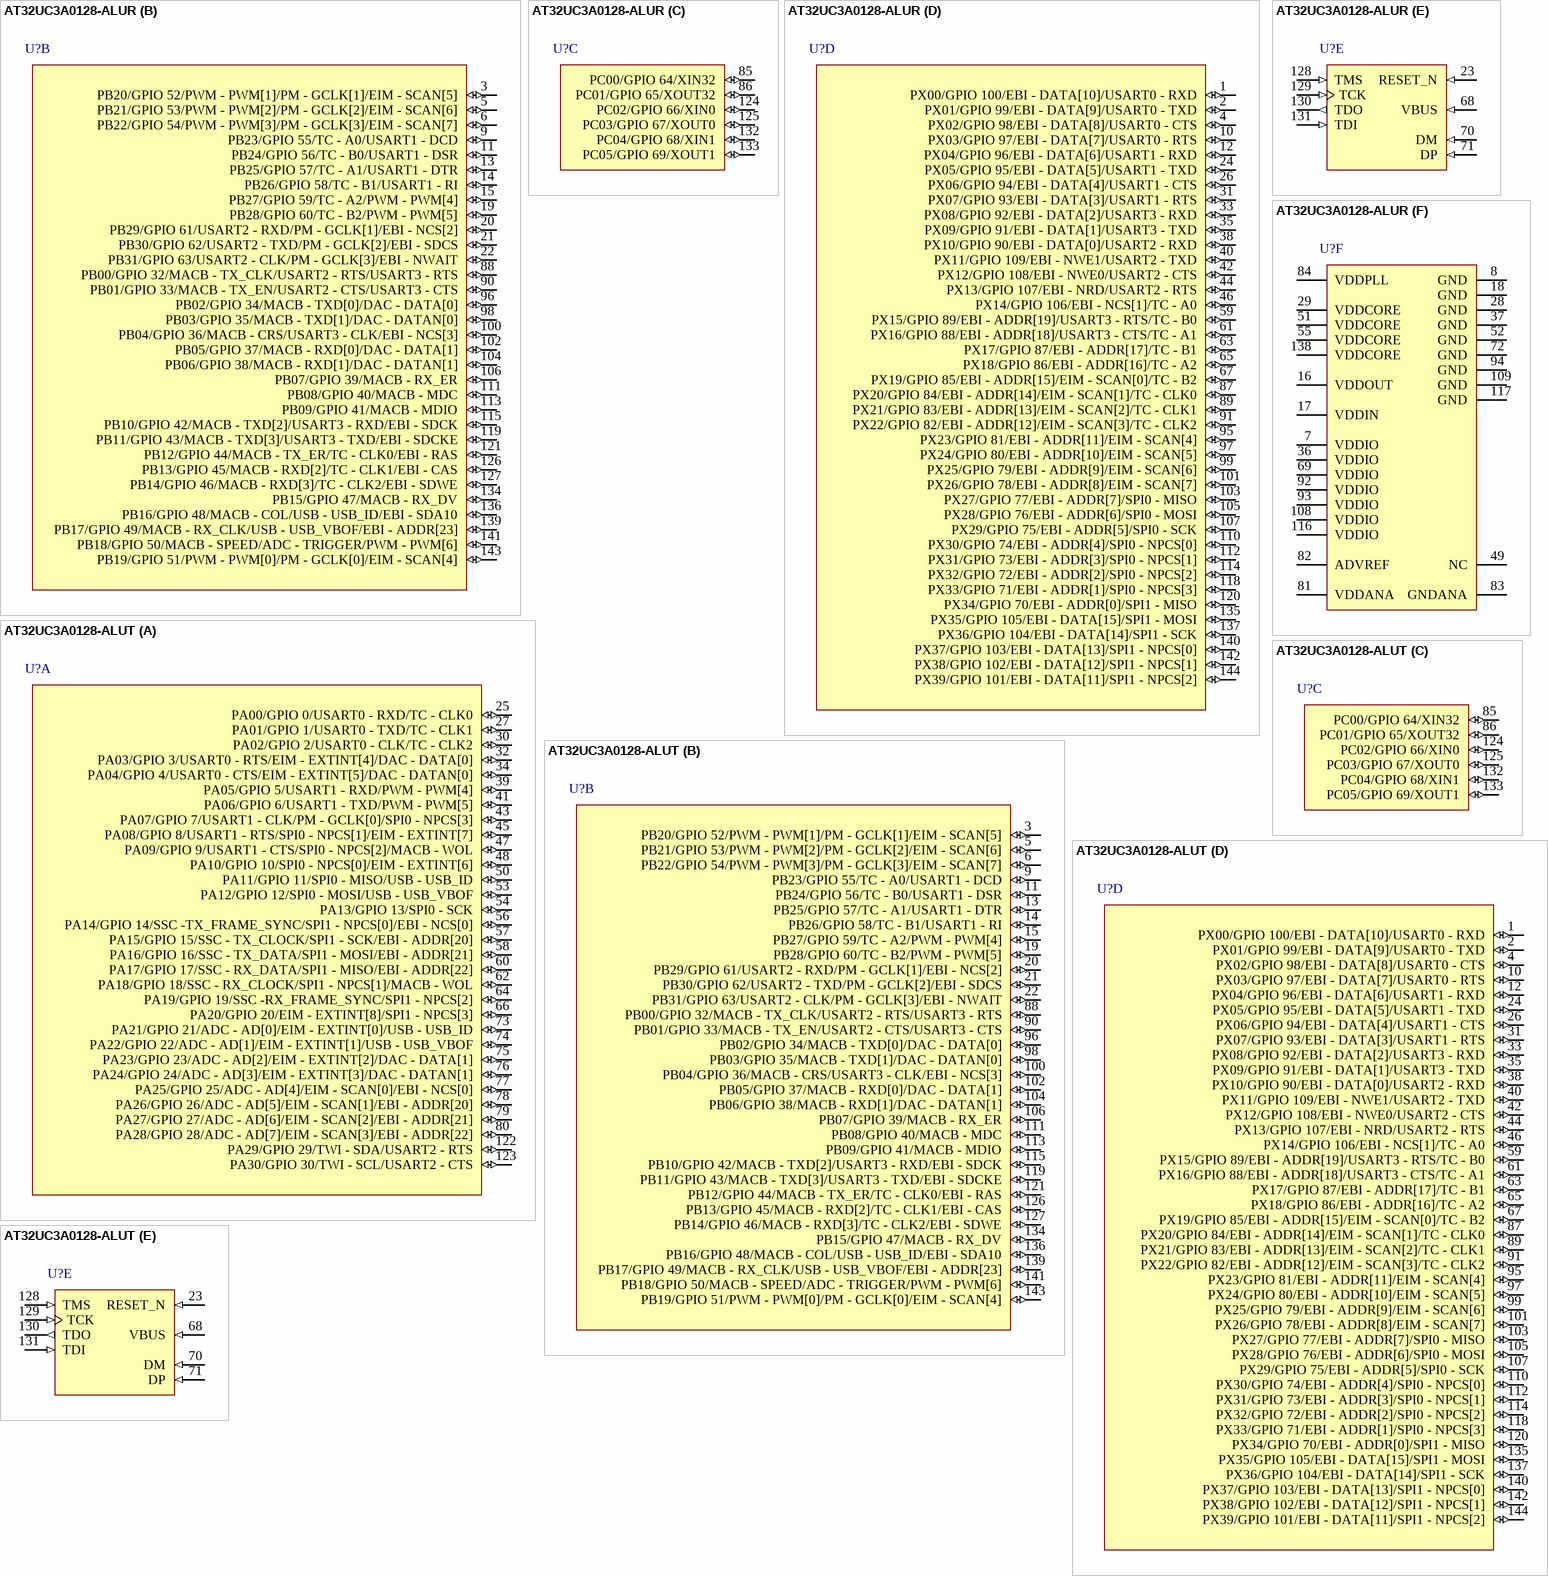
[diagram p4: symbols AT32UC3A0128-ALUR to AT32UC3A0128-ALUT]

## AT32UC3A0128-ALUR
designator U?
32-bit AVR UC3 Microcontroller, 128KB Flash, 32KB SRAM, 109 GPIO pins, Ext. Bus Interface, 144-Pin LQFP, Industrial Grade, Reel; Published: 1-Apr-2010; DatasheetVersion: revI, Nov-2009; PackageVersion: rev.C, Oct-2001; PackageReference: 144AA; Publisher: Altium Limited; PackageDescription: 144-Pin Thin Quad Flat Pack 0.5 mm Pitch; Supplier 1: Digi-Key; Supplier Part Number 1: AT32UC3A0128-ALUR-ND; Supplier 2: Mouser; Supplier Part Number 2: 556-AT32UC3A0128ALUR; Code_JEDEC: MS-026-BFB; ComponentLink1Description: Manufacturer Link; ComponentLink1URL: http://www.atmel.com/products/avr/default.asp?; ComponentLink2Description: AT32UC3A Datasheet; ComponentLink2URL: http://www.atmel.com/dyn/resources/prod_documents/doc32058.pdf; ComponentLink3Description: AT32UC3A Summary; ComponentLink3URL: http://www.atmel.com/dyn/resources/prod_documents/32058S.pdf; ComponentLink4Description: Atmel.com Home; ComponentLink4URL: http://www.atmel.com
footprint 144AA_N (Thin QFP, 144-Leads, Body 20x20mm, Pitch 0.5mm, IPC Medium Density)
footprint 144AA_L (Thin QFP, 144-Leads, Body 20x20mm, Pitch 0.5mm, IPC High Density)
footprint 144AA_M (Thin QFP, 144-Leads, Body 20x20mm, Pitch 0.5mm, IPC Low Density)
part A pins: 25 PA00/GPIO 0/USART0 - RXD/TC - CLK0 (io), 27 PA01/GPIO 1/USART0 - TXD/TC - CLK1 (io), 30 PA02/GPIO 2/USART0 - CLK/TC - CLK2 (io), 32 PA03/GPIO 3/USART0 - RTS/EIM - EXTINT[4]/DAC - DATA[0] (io), 34 PA04/GPIO 4/USART0 - CTS/EIM - EXTINT[5]/DAC - DATAN[0] (io), 39 PA05/GPIO 5/USART1 - RXD/PWM - PWM[4] (io), 41 PA06/GPIO 6/USART1 - TXD/PWM - PWM[5] (io), 43 PA07/GPIO 7/USART1 - CLK/PM - GCLK[0]/SPI0 - NPCS[3] (io), 45 PA08/GPIO 8/USART1 - RTS/SPI0 - NPCS[1]/EIM - EXTINT[7] (io), 47 PA09/GPIO 9/USART1 - CTS/SPI0 - NPCS[2]/MACB - WOL (io), 48 PA10/GPIO 10/SPI0 - NPCS[0]/EIM - EXTINT[6] (io), 50 PA11/GPIO 11/SPI0 - MISO/USB - USB_ID (io), 53 PA12/GPIO 12/SPI0 - MOSI/USB - USB_VBOF (io), 54 PA13/GPIO 13/SPI0 - SCK (io), 56 PA14/GPIO 14/SSC -TX_FRAME_SYNC/SPI1 - NPCS[0]/EBI - NCS[0] (io), 57 PA15/GPIO 15/SSC - TX_CLOCK/SPI1 - SCK/EBI - ADDR[20] (io), 58 PA16/GPIO 16/SSC - TX_DATA/SPI1 - MOSI/EBI - ADDR[21] (io), 60 PA17/GPIO 17/SSC - RX_DATA/SPI1 - MISO/EBI - ADDR[22] (io), 62 PA18/GPIO 18/SSC - RX_CLOCK/SPI1 - NPCS[1]/MACB - WOL (io), 64 PA19/GPIO 19/SSC -RX_FRAME_SYNC/SPI1 - NPCS[2] (io), 66 PA20/GPIO 20/EIM - EXTINT[8]/SPI1 - NPCS[3] (io), 73 PA21/GPIO 21/ADC - AD[0]/EIM - EXTINT[0]/USB - USB_ID (io), 74 PA22/GPIO 22/ADC - AD[1]/EIM - EXTINT[1]/USB - USB_VBOF (io), 75 PA23/GPIO 23/ADC - AD[2]/EIM - EXTINT[2]/DAC - DATA[1] (io), 76 PA24/GPIO 24/ADC - AD[3]/EIM - EXTINT[3]/DAC - DATAN[1] (io), 77 PA25/GPIO 25/ADC - AD[4]/EIM - SCAN[0]/EBI - NCS[0] (io), 78 PA26/GPIO 26/ADC - AD[5]/EIM - SCAN[1]/EBI - ADDR[20] (io), 79 PA27/GPIO 27/ADC - AD[6]/EIM - SCAN[2]/EBI - ADDR[21] (io), 80 PA28/GPIO 28/ADC - AD[7]/EIM - SCAN[3]/EBI - ADDR[22] (io), 122 PA29/GPIO 29/TWI - SDA/USART2 - RTS (io), 123 PA30/GPIO 30/TWI - SCL/USART2 - CTS (io)
part B pins: 3 PB20/GPIO 52/PWM - PWM[1]/PM - GCLK[1]/EIM - SCAN[5] (io), 5 PB21/GPIO 53/PWM - PWM[2]/PM - GCLK[2]/EIM - SCAN[6] (io), 6 PB22/GPIO 54/PWM - PWM[3]/PM - GCLK[3]/EIM - SCAN[7] (io), 9 PB23/GPIO 55/TC - A0/USART1 - DCD (io), 11 PB24/GPIO 56/TC - B0/USART1 - DSR (io), 13 PB25/GPIO 57/TC - A1/USART1 - DTR (io), 14 PB26/GPIO 58/TC - B1/USART1 - RI (io), 15 PB27/GPIO 59/TC - A2/PWM - PWM[4] (io), 19 PB28/GPIO 60/TC - B2/PWM - PWM[5] (io), 20 PB29/GPIO 61/USART2 - RXD/PM - GCLK[1]/EBI - NCS[2] (io), 21 PB30/GPIO 62/USART2 - TXD/PM - GCLK[2]/EBI - SDCS (io), 22 PB31/GPIO 63/USART2 - CLK/PM - GCLK[3]/EBI - NWAIT (io), 88 PB00/GPIO 32/MACB - TX_CLK/USART2 - RTS/USART3 - RTS (io), 90 PB01/GPIO 33/MACB - TX_EN/USART2 - CTS/USART3 - CTS (io), 96 PB02/GPIO 34/MACB - TXD[0]/DAC - DATA[0] (io), 98 PB03/GPIO 35/MACB - TXD[1]/DAC - DATAN[0] (io), 100 PB04/GPIO 36/MACB - CRS/USART3 - CLK/EBI - NCS[3] (io), 102 PB05/GPIO 37/MACB - RXD[0]/DAC - DATA[1] (io), 104 PB06/GPIO 38/MACB - RXD[1]/DAC - DATAN[1] (io), 106 PB07/GPIO 39/MACB - RX_ER (io), 111 PB08/GPIO 40/MACB - MDC (io), 113 PB09/GPIO 41/MACB - MDIO (io), 115 PB10/GPIO 42/MACB - TXD[2]/USART3 - RXD/EBI - SDCK (io), 119 PB11/GPIO 43/MACB - TXD[3]/USART3 - TXD/EBI - SDCKE (io), 121 PB12/GPIO 44/MACB - TX_ER/TC - CLK0/EBI - RAS (io), 126 PB13/GPIO 45/MACB - RXD[2]/TC - CLK1/EBI - CAS (io), 127 PB14/GPIO 46/MACB - RXD[3]/TC - CLK2/EBI - SDWE (io), 134 PB15/GPIO 47/MACB - RX_DV (io), 136 PB16/GPIO 48/MACB - COL/USB - USB_ID/EBI - SDA10 (io), 139 PB17/GPIO 49/MACB - RX_CLK/USB - USB_VBOF/EBI - ADDR[23] (io), 141 PB18/GPIO 50/MACB - SPEED/ADC - TRIGGER/PWM - PWM[6] (io), 143 PB19/GPIO 51/PWM - PWM[0]/PM - GCLK[0]/EIM - SCAN[4] (io)
part C pins: 85 PC00/GPIO 64/XIN32 (io), 86 PC01/GPIO 65/XOUT32 (io), 124 PC02/GPIO 66/XIN0 (io), 125 PC03/GPIO 67/XOUT0 (io), 132 PC04/GPIO 68/XIN1 (io), 133 PC05/GPIO 69/XOUT1 (io)
part D pins: 1 PX00/GPIO 100/EBI - DATA[10]/USART0 - RXD (io), 2 PX01/GPIO 99/EBI - DATA[9]/USART0 - TXD (io), 4 PX02/GPIO 98/EBI - DATA[8]/USART0 - CTS (io), 10 PX03/GPIO 97/EBI - DATA[7]/USART0 - RTS (io), 12 PX04/GPIO 96/EBI - DATA[6]/USART1 - RXD (io), 24 PX05/GPIO 95/EBI - DATA[5]/USART1 - TXD (io), 26 PX06/GPIO 94/EBI - DATA[4]/USART1 - CTS (io), 31 PX07/GPIO 93/EBI - DATA[3]/USART1 - RTS (io), 33 PX08/GPIO 92/EBI - DATA[2]/USART3 - RXD (io), 35 PX09/GPIO 91/EBI - DATA[1]/USART3 - TXD (io), 38 PX10/GPIO 90/EBI - DATA[0]/USART2 - RXD (io), 40 PX11/GPIO 109/EBI - NWE1/USART2 - TXD (io), 42 PX12/GPIO 108/EBI - NWE0/USART2 - CTS (io), 44 PX13/GPIO 107/EBI - NRD/USART2 - RTS (io), 46 PX14/GPIO 106/EBI - NCS[1]/TC - A0 (io), 59 PX15/GPIO 89/EBI - ADDR[19]/USART3 - RTS/TC - B0 (io), 61 PX16/GPIO 88/EBI - ADDR[18]/USART3 - CTS/TC - A1 (io), 63 PX17/GPIO 87/EBI - ADDR[17]/TC - B1 (io), 65 PX18/GPIO 86/EBI - ADDR[16]/TC - A2 (io), 67 PX19/GPIO 85/EBI - ADDR[15]/EIM - SCAN[0]/TC - B2 (io), 87 PX20/GPIO 84/EBI - ADDR[14]/EIM - SCAN[1]/TC - CLK0 (io), 89 PX21/GPIO 83/EBI - ADDR[13]/EIM - SCAN[2]/TC - CLK1 (io), 91 PX22/GPIO 82/EBI - ADDR[12]/EIM - SCAN[3]/TC - CLK2 (io), 95 PX23/GPIO 81/EBI - ADDR[11]/EIM - SCAN[4] (io), 97 PX24/GPIO 80/EBI - ADDR[10]/EIM - SCAN[5] (io), 99 PX25/GPIO 79/EBI - ADDR[9]/EIM - SCAN[6] (io), 101 PX26/GPIO 78/EBI - ADDR[8]/EIM - SCAN[7] (io), 103 PX27/GPIO 77/EBI - ADDR[7]/SPI0 - MISO (io), 105 PX28/GPIO 76/EBI - ADDR[6]/SPI0 - MOSI (io), 107 PX29/GPIO 75/EBI - ADDR[5]/SPI0 - SCK (io), 110 PX30/GPIO 74/EBI - ADDR[4]/SPI0 - NPCS[0] (io), 112 PX31/GPIO 73/EBI - ADDR[3]/SPI0 - NPCS[1] (io), 114 PX32/GPIO 72/EBI - ADDR[2]/SPI0 - NPCS[2] (io), 118 PX33/GPIO 71/EBI - ADDR[1]/SPI0 - NPCS[3] (io), 120 PX34/GPIO 70/EBI - ADDR[0]/SPI1 - MISO (io), 135 PX35/GPIO 105/EBI - DATA[15]/SPI1 - MOSI (io), 137 PX36/GPIO 104/EBI - DATA[14]/SPI1 - SCK (io), 140 PX37/GPIO 103/EBI - DATA[13]/SPI1 - NPCS[0] (io), 142 PX38/GPIO 102/EBI - DATA[12]/SPI1 - NPCS[1] (io), 144 PX39/GPIO 101/EBI - DATA[11]/SPI1 - NPCS[2] (io)
part E pins: 23 RESET_N (in), 68 VBUS (in), 70 DM (in), 71 DP (in), 128 TMS (in), 129 TCK (in), 130 TDO (out), 131 TDI (in)
part F pins: 7 VDDIO (power), 8 GND (power), 16 VDDOUT (power), 17 VDDIN (power), 18 GND (power), 28 GND (power), 29 VDDCORE (power), 36 VDDIO (power), 37 GND (power), 49 NC, 51 VDDCORE (power), 52 GND (power), 55 VDDCORE (power), 69 VDDIO (power), 72 GND (power), 81 VDDANA (power), 82 ADVREF (power), 83 GNDANA (power), 84 VDDPLL (power), 92 VDDIO (power), 93 VDDIO (power), 94 GND (power), 108 VDDIO (power), 109 GND (power), 116 VDDIO (power), 117 GND (power), 138 VDDCORE (power)

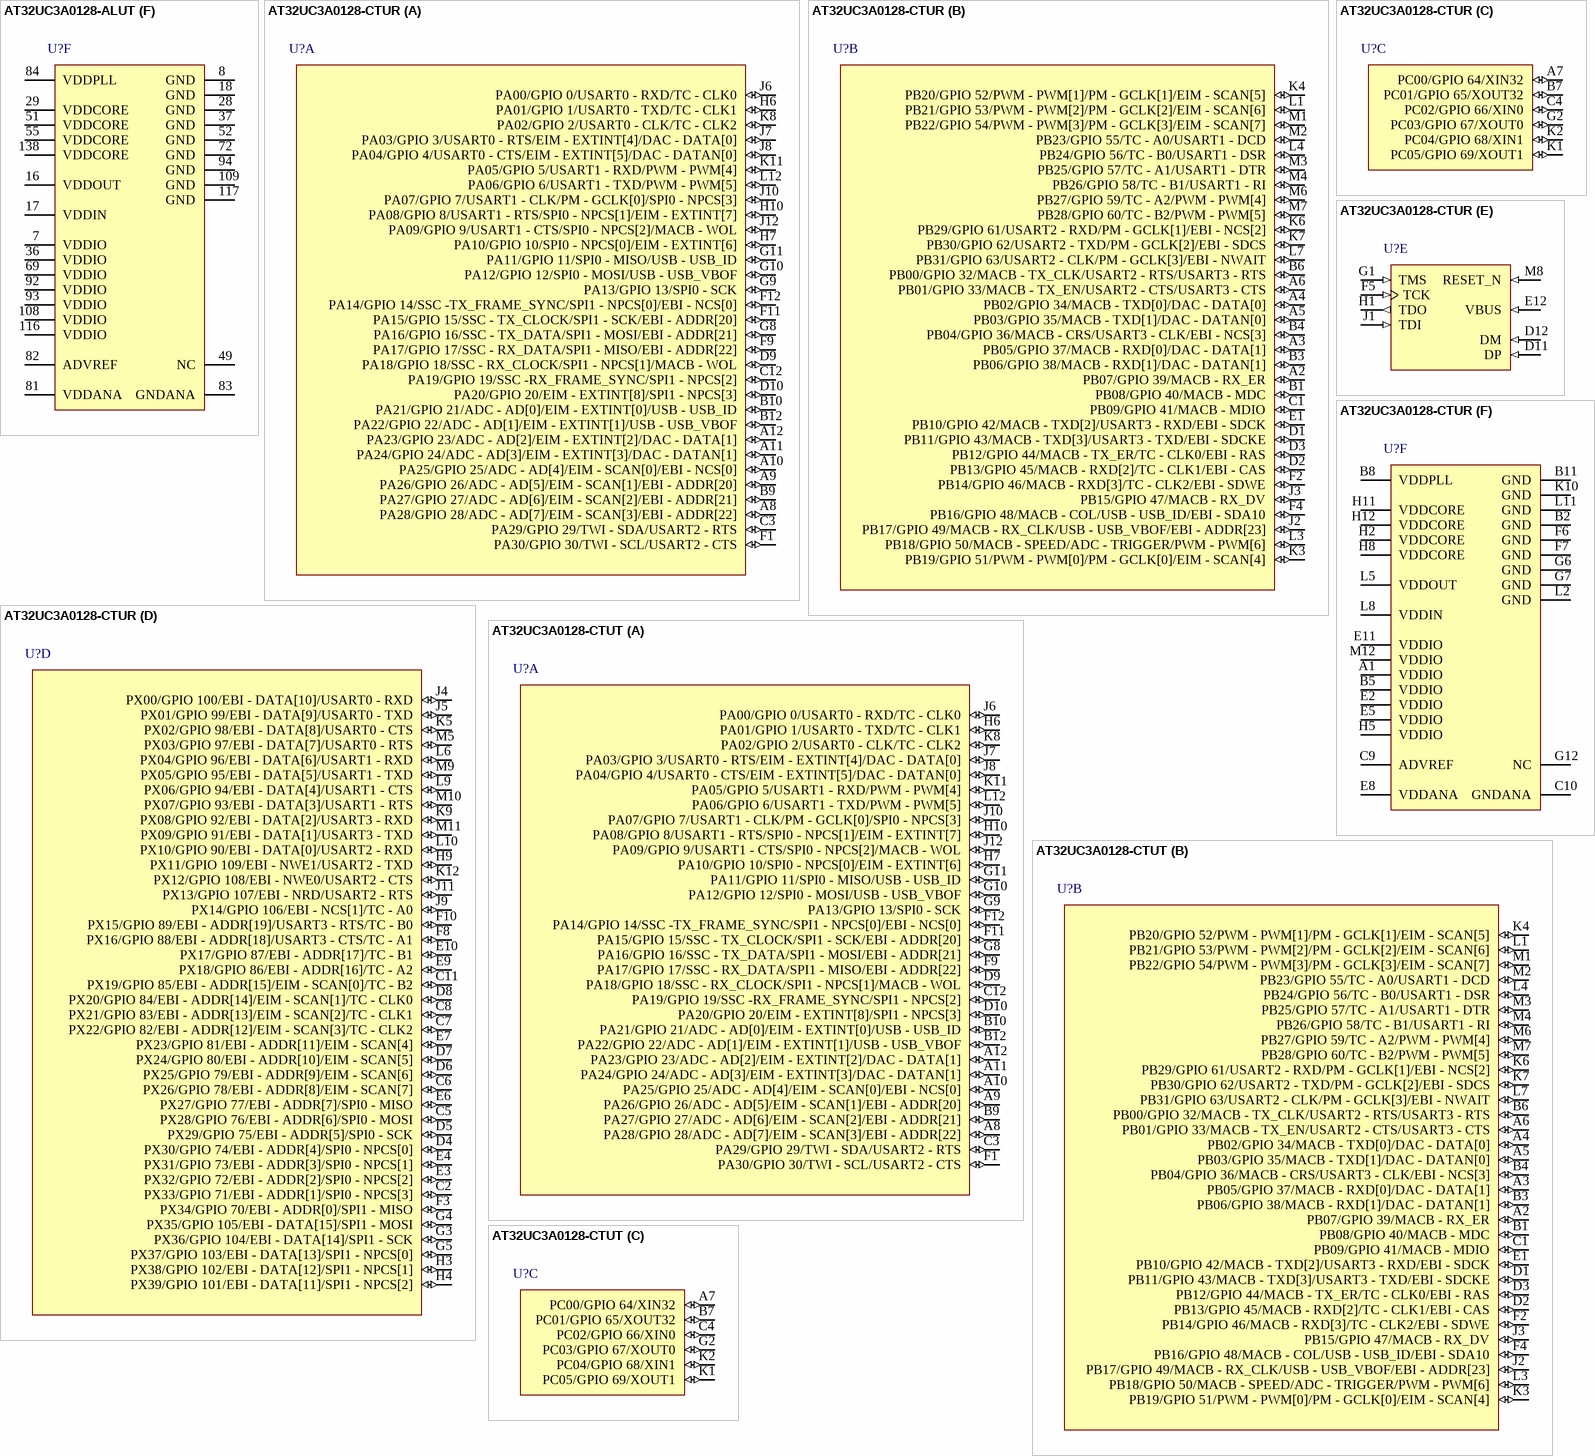
[diagram p5: symbols AT32UC3A0128-ALUT to AT32UC3A0128-CTUT]